# Altium integrated library Altera FLEX 8000.IntLib: 65 symbols (part 2 of 5)
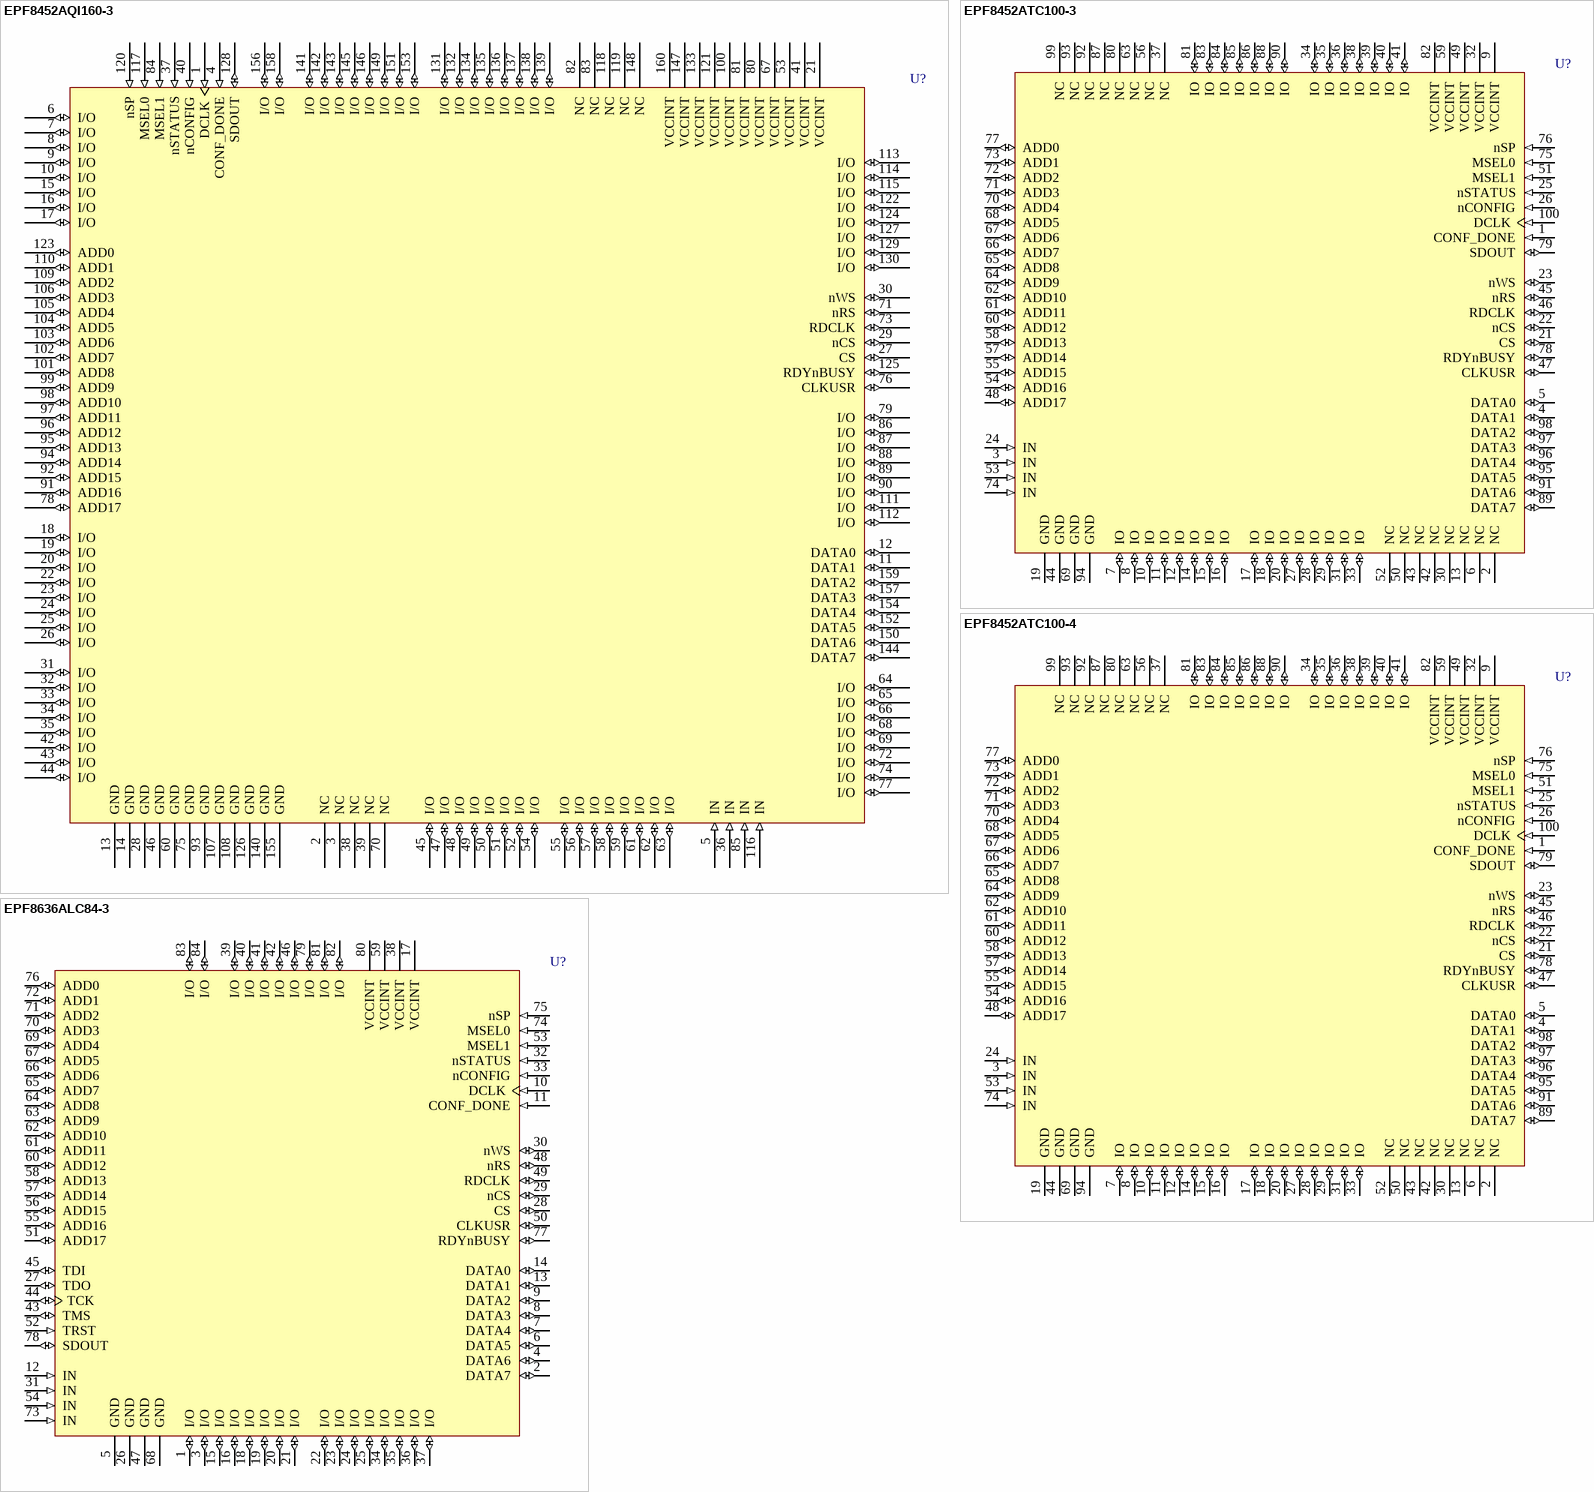
[diagram p40: symbols EPF8452AQI160-3 to EPF8636ALC84-3]

## EPF8636ALC84-3
designator U?
FLEX EPF8636A 5.0V PLD, 68 User IO Pins, 84-Pin PLCC, Speed Grade 3, Commercial Grade; Published: 24-Nov-2000; LatestRevisionDate: 13-Apr-2006; LatestRevisionNote: IPC-7351 Footprint Added.; DatasheetVersion: ver11.1, Jan-2003; PackageVersion: ver14.1, Oct-2005; PackageReference: PLCC84; Publisher: Altium Limited; PackageDescription: 84-Pin Plastic J-Lead Chip Carrier (PLCC84); Code_JEDEC: MS-018-AF; Code_IPC: PLCC-84; ComponentLink1Description: Manufacturer Link; ComponentLink1URL: http://www.altera.com/products/devices/flex8k/f8k-index.html; ComponentLink2Description: Datasheet; ComponentLink2URL: http://www.altera.com/literature/ds/dsf8k.pdf
footprint PLCC84_N (Leaded Chip Carrier, 84-Leads, Body 29.3x29.3mm, Pitch 1.27mm, IPC Medium Density)
footprint PLCC84_L (Leaded Chip Carrier, 84-Leads, Body 29.3x29.3mm, Pitch 1.27mm, IPC High Density)
footprint PLCC84_M (Leaded Chip Carrier, 84-Leads, Body 29.3x29.3mm, Pitch 1.27mm, IPC Low Density)
3D model EPF8636A-PLCC84 (84-Pin Plastic J-Lead Chip Carrier (PLCC84))
pins: 1 I/O (io), 2 DATA7 (io), 3 I/O (io), 4 DATA6 (io), 5 GND (power), 6 DATA5 (io), 7 DATA4 (io), 8 DATA3 (io), 9 DATA2 (io), 10 DCLK (in), 11 CONF_DONE (in), 12 IN (in), 13 DATA1 (io), 14 DATA0 (io), 15 I/O (io), 16 I/O (io), 17 VCCINT (power), 18 I/O (io), 19 I/O (io), 20 I/O (io), 21 I/O (io), 22 I/O (io), 23 I/O (io), 24 I/O (io), 25 I/O (io), 26 GND (power), 27 TDO (io), 28 CS (io), 29 nCS (io), 30 nWS (io), 31 IN (in), 32 nSTATUS (in), 33 nCONFIG (in), 34 I/O (io), 35 I/O (io), 36 I/O (io), 37 I/O (io), 38 VCCINT (power), 39 I/O (io), 40 I/O (io), 41 I/O (io), 42 I/O (io), 43 TMS (io), 44 TCK (io), 45 TDI (io), 46 I/O (io), 47 GND (power), 48 nRS (io), 49 RDCLK (io), 50 CLKUSR (io), 51 ADD17 (io), 52 TRST (in), 53 MSEL1 (in), 54 IN (in), 55 ADD16 (io), 56 ADD15 (io), 57 ADD14 (io), 58 ADD13 (io), 59 VCCINT (power), 60 ADD12 (io), 61 ADD11 (io), 62 ADD10 (io), 63 ADD9 (io), 64 ADD8 (io), 65 ADD7 (io), 66 ADD6 (io), 67 ADD5 (io), 68 GND (power), 69 ADD4 (io), 70 ADD3 (io), 71 ADD2 (io), 72 ADD1 (io), 73 IN (in), 74 MSEL0 (in), 75 nSP (in), 76 ADD0 (io), 77 RDYnBUSY (io), 78 SDOUT (io), 79 I/O (io), 80 VCCINT (power), 81 I/O (io), 82 I/O (io), 83 I/O (io), 84 I/O (io)

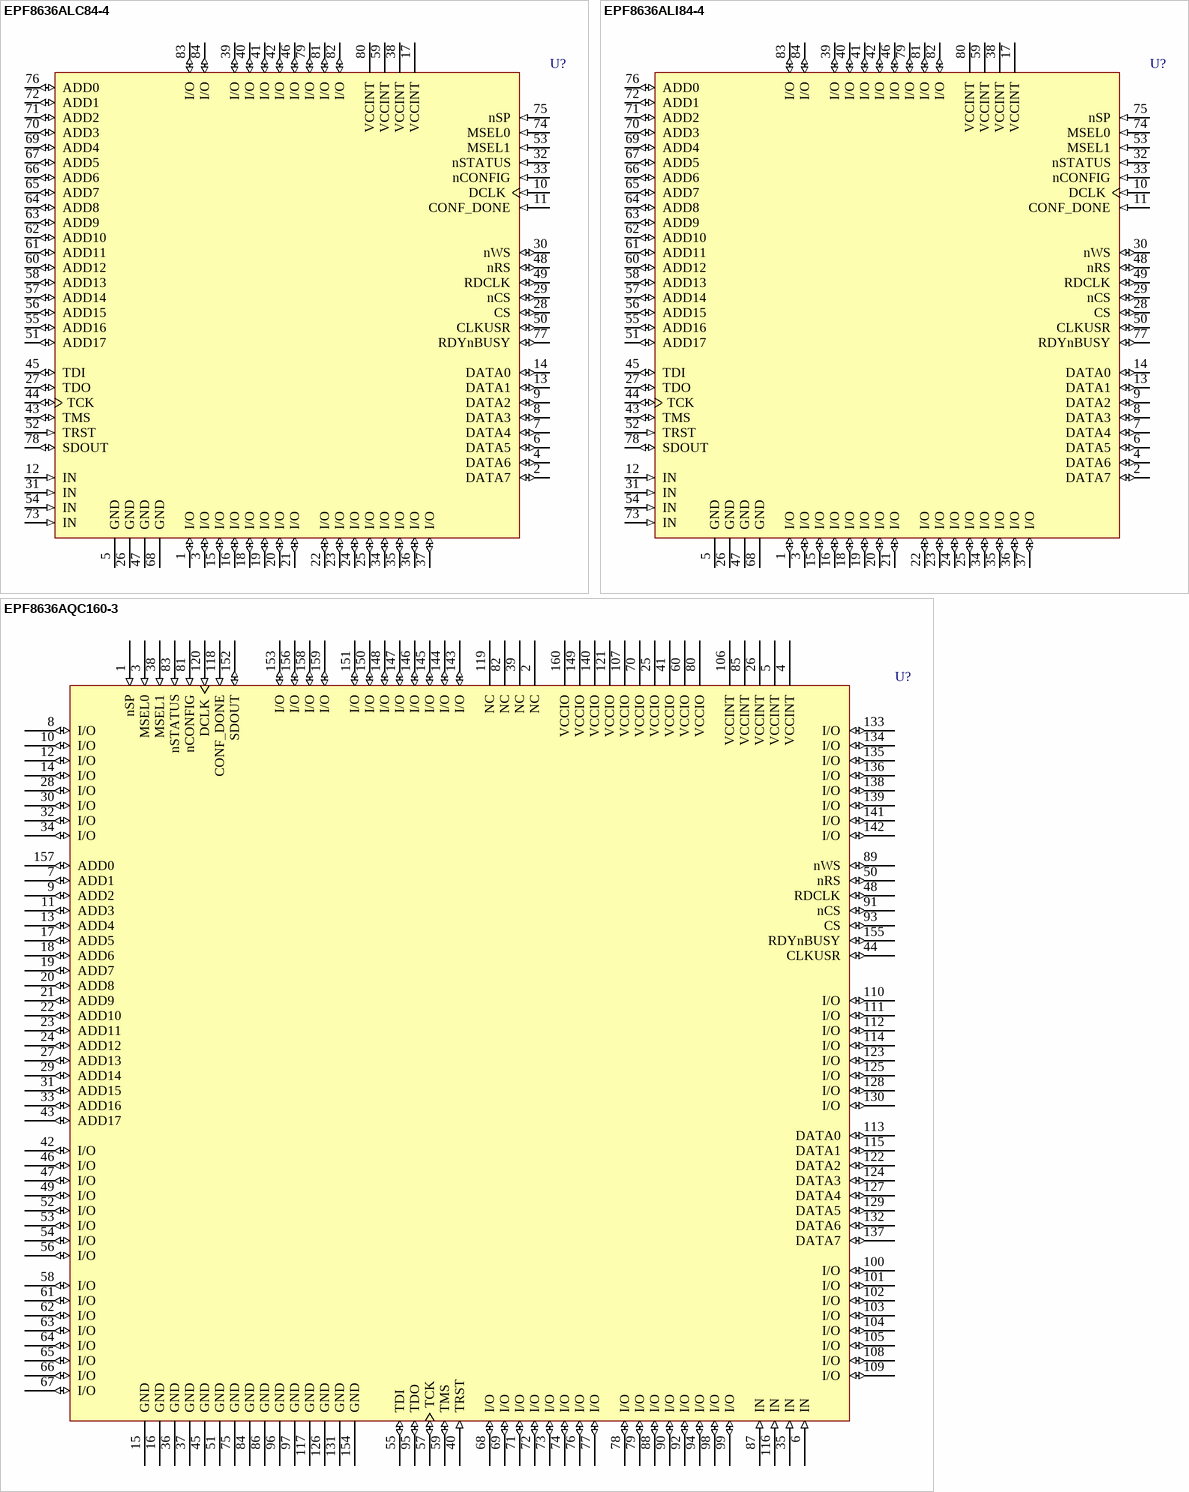
[diagram p7: symbols EPF8636ALC84-4 to EPF8636AQC160-3]

## EPF8636ALC84-4
designator U?
FLEX EPF8636A 5.0V PLD, 68 User IO Pins, 84-Pin PLCC, Speed Grade 4, Commercial Grade; Published: 24-Nov-2000; LatestRevisionDate: 13-Apr-2006; LatestRevisionNote: IPC-7351 Footprint Added.; DatasheetVersion: ver11.1, Jan-2003; PackageVersion: ver14.1, Oct-2005; PackageReference: PLCC84; Publisher: Altium Limited; PackageDescription: 84-Pin Plastic J-Lead Chip Carrier (PLCC84); Code_JEDEC: MS-018-AF; Code_IPC: PLCC-84; ComponentLink1Description: Manufacturer Link; ComponentLink1URL: http://www.altera.com/products/devices/flex8k/f8k-index.html; ComponentLink2Description: Datasheet; ComponentLink2URL: http://www.altera.com/literature/ds/dsf8k.pdf
footprint PLCC84_N (Leaded Chip Carrier, 84-Leads, Body 29.3x29.3mm, Pitch 1.27mm, IPC Medium Density)
footprint PLCC84_L (Leaded Chip Carrier, 84-Leads, Body 29.3x29.3mm, Pitch 1.27mm, IPC High Density)
footprint PLCC84_M (Leaded Chip Carrier, 84-Leads, Body 29.3x29.3mm, Pitch 1.27mm, IPC Low Density)
3D model EPF8636A-PLCC84 (84-Pin Plastic J-Lead Chip Carrier (PLCC84))
pins: 1 I/O (io), 2 DATA7 (io), 3 I/O (io), 4 DATA6 (io), 5 GND (power), 6 DATA5 (io), 7 DATA4 (io), 8 DATA3 (io), 9 DATA2 (io), 10 DCLK (in), 11 CONF_DONE (in), 12 IN (in), 13 DATA1 (io), 14 DATA0 (io), 15 I/O (io), 16 I/O (io), 17 VCCINT (power), 18 I/O (io), 19 I/O (io), 20 I/O (io), 21 I/O (io), 22 I/O (io), 23 I/O (io), 24 I/O (io), 25 I/O (io), 26 GND (power), 27 TDO (io), 28 CS (io), 29 nCS (io), 30 nWS (io), 31 IN (in), 32 nSTATUS (in), 33 nCONFIG (in), 34 I/O (io), 35 I/O (io), 36 I/O (io), 37 I/O (io), 38 VCCINT (power), 39 I/O (io), 40 I/O (io), 41 I/O (io), 42 I/O (io), 43 TMS (io), 44 TCK (io), 45 TDI (io), 46 I/O (io), 47 GND (power), 48 nRS (io), 49 RDCLK (io), 50 CLKUSR (io), 51 ADD17 (io), 52 TRST (in), 53 MSEL1 (in), 54 IN (in), 55 ADD16 (io), 56 ADD15 (io), 57 ADD14 (io), 58 ADD13 (io), 59 VCCINT (power), 60 ADD12 (io), 61 ADD11 (io), 62 ADD10 (io), 63 ADD9 (io), 64 ADD8 (io), 65 ADD7 (io), 66 ADD6 (io), 67 ADD5 (io), 68 GND (power), 69 ADD4 (io), 70 ADD3 (io), 71 ADD2 (io), 72 ADD1 (io), 73 IN (in), 74 MSEL0 (in), 75 nSP (in), 76 ADD0 (io), 77 RDYnBUSY (io), 78 SDOUT (io), 79 I/O (io), 80 VCCINT (power), 81 I/O (io), 82 I/O (io), 83 I/O (io), 84 I/O (io)

## EPF8636ALI84-4
designator U?
FLEX EPF8636A 5.0V PLD, 68 User IO Pins, 84-Pin PLCC, Speed Grade 4, Industrial Grade; Published: 24-Nov-2000; LatestRevisionDate: 13-Apr-2006; LatestRevisionNote: IPC-7351 Footprint Added.; DatasheetVersion: ver11.1, Jan-2003; PackageVersion: ver14.1, Oct-2005; PackageReference: PLCC84; Publisher: Altium Limited; PackageDescription: 84-Pin Plastic J-Lead Chip Carrier (PLCC84); Code_JEDEC: MS-018-AF; Code_IPC: PLCC-84; ComponentLink1Description: Manufacturer Link; ComponentLink1URL: http://www.altera.com/products/devices/flex8k/f8k-index.html; ComponentLink2Description: Datasheet; ComponentLink2URL: http://www.altera.com/literature/ds/dsf8k.pdf
footprint PLCC84_N (Leaded Chip Carrier, 84-Leads, Body 29.3x29.3mm, Pitch 1.27mm, IPC Medium Density)
footprint PLCC84_L (Leaded Chip Carrier, 84-Leads, Body 29.3x29.3mm, Pitch 1.27mm, IPC High Density)
footprint PLCC84_M (Leaded Chip Carrier, 84-Leads, Body 29.3x29.3mm, Pitch 1.27mm, IPC Low Density)
3D model EPF8636A-PLCC84 (84-Pin Plastic J-Lead Chip Carrier (PLCC84))
pins: 1 I/O (io), 2 DATA7 (io), 3 I/O (io), 4 DATA6 (io), 5 GND (power), 6 DATA5 (io), 7 DATA4 (io), 8 DATA3 (io), 9 DATA2 (io), 10 DCLK (in), 11 CONF_DONE (in), 12 IN (in), 13 DATA1 (io), 14 DATA0 (io), 15 I/O (io), 16 I/O (io), 17 VCCINT (power), 18 I/O (io), 19 I/O (io), 20 I/O (io), 21 I/O (io), 22 I/O (io), 23 I/O (io), 24 I/O (io), 25 I/O (io), 26 GND (power), 27 TDO (io), 28 CS (io), 29 nCS (io), 30 nWS (io), 31 IN (in), 32 nSTATUS (in), 33 nCONFIG (in), 34 I/O (io), 35 I/O (io), 36 I/O (io), 37 I/O (io), 38 VCCINT (power), 39 I/O (io), 40 I/O (io), 41 I/O (io), 42 I/O (io), 43 TMS (io), 44 TCK (io), 45 TDI (io), 46 I/O (io), 47 GND (power), 48 nRS (io), 49 RDCLK (io), 50 CLKUSR (io), 51 ADD17 (io), 52 TRST (in), 53 MSEL1 (in), 54 IN (in), 55 ADD16 (io), 56 ADD15 (io), 57 ADD14 (io), 58 ADD13 (io), 59 VCCINT (power), 60 ADD12 (io), 61 ADD11 (io), 62 ADD10 (io), 63 ADD9 (io), 64 ADD8 (io), 65 ADD7 (io), 66 ADD6 (io), 67 ADD5 (io), 68 GND (power), 69 ADD4 (io), 70 ADD3 (io), 71 ADD2 (io), 72 ADD1 (io), 73 IN (in), 74 MSEL0 (in), 75 nSP (in), 76 ADD0 (io), 77 RDYnBUSY (io), 78 SDOUT (io), 79 I/O (io), 80 VCCINT (power), 81 I/O (io), 82 I/O (io), 83 I/O (io), 84 I/O (io)

## EPF8636AQC160-3
designator U?
FLEX EPF8636A 5.0V PLD, 118 User IO Pins, 160-Pin PQFP, Speed Grade 3, Commercial Grade; Published: 24-Nov-2000; LatestRevisionDate: 13-Apr-2006; LatestRevisionNote: IPC-7351 Footprint Added.; DatasheetVersion: ver11.1, Jan-2003; PackageVersion: ver14.1, Oct-2005; PackageReference: PQFP160; Publisher: Altium Limited; PackageDescription: 160-Pin Plastic Quad Flat Pack (PFQP160); Code_JEDEC: MS-022-DD-1; Code_IPC: QFP65P3120X3120-160; ComponentLink1Description: Manufacturer Link; ComponentLink1URL: http://www.altera.com/products/devices/flex8k/f8k-index.html; ComponentLink2Description: Datasheet; ComponentLink2URL: http://www.altera.com/literature/ds/dsf8k.pdf
footprint PQFP160_N (QFP, 160-Leads, Body 28 x 28mm, Pitch 0.65mm, IPC Medium Density)
footprint PQFP160_L (QFP, 160-Leads, Body 28 x 28mm, Pitch 0.65mm, IPC High Density)
footprint PQFP160_M (QFP, 160-Leads, Body 28 x 28mm, Pitch 0.65mm, IPC Low Density)
3D model EPF8636A-PQFP160 (160-Pin Plastic Quad Flat Pack (PFQP160))
pins: 1 nSP (in), 2 NC, 3 MSEL0 (in), 4 VCCINT (power), 5 VCCINT (power), 6 IN (in), 7 ADD1 (io), 8 I/O (io), 9 ADD2 (io), 10 I/O (io), 11 ADD3 (io), 12 I/O (io), 13 ADD4 (io), 14 I/O (io), 15 GND (power), 16 GND (power), 17 ADD5 (io), 18 ADD6 (io), 19 ADD7 (io), 20 ADD8 (io), 21 ADD9 (io), 22 ADD10 (io), 23 ADD11 (io), 24 ADD12 (io), 25 VCCIO (power), 26 VCCINT (power), 27 ADD13 (io), 28 I/O (io), 29 ADD14 (io), 30 I/O (io), 31 ADD15 (io), 32 I/O (io), 33 ADD16 (io), 34 I/O (io), 35 IN (in), 36 GND (power), 37 GND (power), 38 MSEL1 (in), 39 NC, 40 TRST (in), 41 VCCIO (power), 42 I/O (io), 43 ADD17 (io), 44 CLKUSR (io), 45 GND (power), 46 I/O (io), 47 I/O (io), 48 RDCLK (io), 49 I/O (io), 50 nRS (io), 51 GND (power), 52 I/O (io), 53 I/O (io), 54 I/O (io), 55 TDI (io), 56 I/O (io), 57 TCK (io), 58 I/O (io), 59 TMS (io), 60 VCCIO (power), 61 I/O (io), 62 I/O (io), 63 I/O (io), 64 I/O (io), 65 I/O (io), 66 I/O (io), 67 I/O (io), 68 I/O (io), 69 I/O (io), 70 VCCIO (power), 71 I/O (io), 72 I/O (io), 73 I/O (io), 74 I/O (io), 75 GND (power), 76 I/O (io), 77 I/O (io), 78 I/O (io), 79 I/O (io), 80 VCCIO (power), 81 nCONFIG (in), 82 NC, 83 nSTATUS (in), 84 GND (power), 85 VCCINT (power), 86 GND (power), 87 IN (in), 88 I/O (io), 89 nWS (io), 90 I/O (io), 91 nCS (io), 92 I/O (io), 93 CS (io), 94 I/O (io), 95 TDO (io), 96 GND (power), 97 GND (power), 98 I/O (io), 99 I/O (io), 100 I/O (io), 101 I/O (io), 102 I/O (io), 103 I/O (io), 104 I/O (io), 105 I/O (io), 106 VCCINT (power), 107 VCCIO (power), 108 I/O (io), 109 I/O (io), 110 I/O (io), 111 I/O (io), 112 I/O (io), 113 DATA0 (io), 114 I/O (io), 115 DATA1 (io), 116 IN (in), 117 GND (power), 118 CONF_DONE (in), 119 NC, 120 DCLK (in), 121 VCCIO (power), 122 DATA2 (io), 123 I/O (io), 124 DATA3 (io), 125 I/O (io), 126 GND (power), 127 DATA4 (io), 128 I/O (io), 129 DATA5 (io), 130 I/O (io), 131 GND (power), 132 DATA6 (io), 133 I/O (io), 134 I/O (io), 135 I/O (io), 136 I/O (io), 137 DATA7 (io), 138 I/O (io), 139 I/O (io), 140 VCCIO (power), 141 I/O (io), 142 I/O (io), 143 I/O (io), 144 I/O (io), 145 I/O (io), 146 I/O (io), 147 I/O (io), 148 I/O (io), 149 VCCIO (power), 150 I/O (io), 151 I/O (io), 152 SDOUT (io), 153 I/O (io), 154 GND (power), 155 RDYnBUSY (io), 156 I/O (io), 157 ADD0 (io), 158 I/O (io), 159 I/O (io), 160 VCCIO (power)

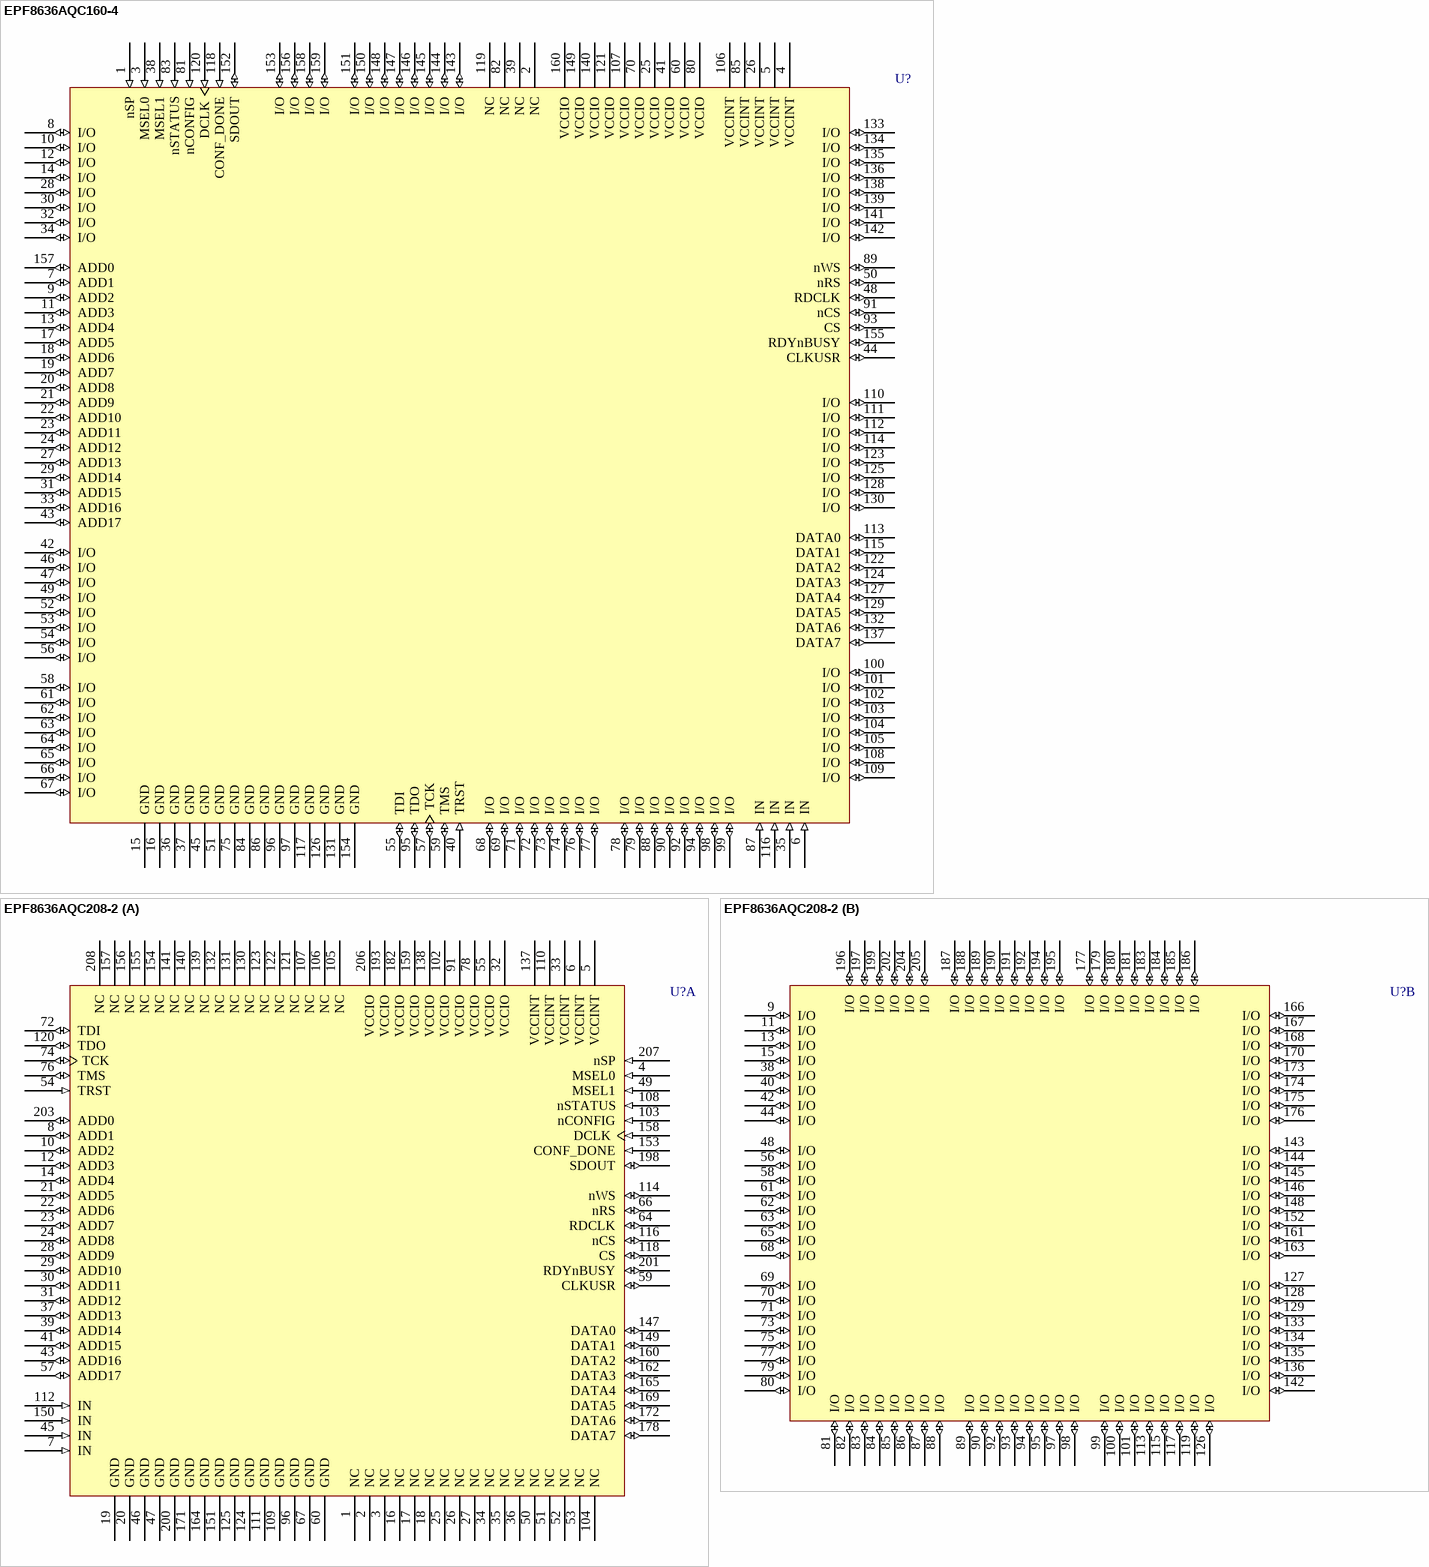
[diagram p8: symbols EPF8636AQC160-4 to EPF8636AQC208-2]

## EPF8636AQC160-4
designator U?
FLEX EPF8636A 5.0V PLD, 118 User IO Pins, 160-Pin PQFP, Speed Grade 4, Commercial Grade; Published: 24-Nov-2000; LatestRevisionDate: 13-Apr-2006; LatestRevisionNote: IPC-7351 Footprint Added.; DatasheetVersion: ver11.1, Jan-2003; PackageVersion: ver14.1, Oct-2005; PackageReference: PQFP160; Publisher: Altium Limited; PackageDescription: 160-Pin Plastic Quad Flat Pack (PFQP160); Code_JEDEC: MS-022-DD-1; Code_IPC: QFP65P3120X3120-160; ComponentLink1Description: Manufacturer Link; ComponentLink1URL: http://www.altera.com/products/devices/flex8k/f8k-index.html; ComponentLink2Description: Datasheet; ComponentLink2URL: http://www.altera.com/literature/ds/dsf8k.pdf
footprint PQFP160_N (QFP, 160-Leads, Body 28 x 28mm, Pitch 0.65mm, IPC Medium Density)
footprint PQFP160_L (QFP, 160-Leads, Body 28 x 28mm, Pitch 0.65mm, IPC High Density)
footprint PQFP160_M (QFP, 160-Leads, Body 28 x 28mm, Pitch 0.65mm, IPC Low Density)
3D model EPF8636A-PQFP160 (160-Pin Plastic Quad Flat Pack (PFQP160))
pins: 1 nSP (in), 2 NC, 3 MSEL0 (in), 4 VCCINT (power), 5 VCCINT (power), 6 IN (in), 7 ADD1 (io), 8 I/O (io), 9 ADD2 (io), 10 I/O (io), 11 ADD3 (io), 12 I/O (io), 13 ADD4 (io), 14 I/O (io), 15 GND (power), 16 GND (power), 17 ADD5 (io), 18 ADD6 (io), 19 ADD7 (io), 20 ADD8 (io), 21 ADD9 (io), 22 ADD10 (io), 23 ADD11 (io), 24 ADD12 (io), 25 VCCIO (power), 26 VCCINT (power), 27 ADD13 (io), 28 I/O (io), 29 ADD14 (io), 30 I/O (io), 31 ADD15 (io), 32 I/O (io), 33 ADD16 (io), 34 I/O (io), 35 IN (in), 36 GND (power), 37 GND (power), 38 MSEL1 (in), 39 NC, 40 TRST (in), 41 VCCIO (power), 42 I/O (io), 43 ADD17 (io), 44 CLKUSR (io), 45 GND (power), 46 I/O (io), 47 I/O (io), 48 RDCLK (io), 49 I/O (io), 50 nRS (io), 51 GND (power), 52 I/O (io), 53 I/O (io), 54 I/O (io), 55 TDI (io), 56 I/O (io), 57 TCK (io), 58 I/O (io), 59 TMS (io), 60 VCCIO (power), 61 I/O (io), 62 I/O (io), 63 I/O (io), 64 I/O (io), 65 I/O (io), 66 I/O (io), 67 I/O (io), 68 I/O (io), 69 I/O (io), 70 VCCIO (power), 71 I/O (io), 72 I/O (io), 73 I/O (io), 74 I/O (io), 75 GND (power), 76 I/O (io), 77 I/O (io), 78 I/O (io), 79 I/O (io), 80 VCCIO (power), 81 nCONFIG (in), 82 NC, 83 nSTATUS (in), 84 GND (power), 85 VCCINT (power), 86 GND (power), 87 IN (in), 88 I/O (io), 89 nWS (io), 90 I/O (io), 91 nCS (io), 92 I/O (io), 93 CS (io), 94 I/O (io), 95 TDO (io), 96 GND (power), 97 GND (power), 98 I/O (io), 99 I/O (io), 100 I/O (io), 101 I/O (io), 102 I/O (io), 103 I/O (io), 104 I/O (io), 105 I/O (io), 106 VCCINT (power), 107 VCCIO (power), 108 I/O (io), 109 I/O (io), 110 I/O (io), 111 I/O (io), 112 I/O (io), 113 DATA0 (io), 114 I/O (io), 115 DATA1 (io), 116 IN (in), 117 GND (power), 118 CONF_DONE (in), 119 NC, 120 DCLK (in), 121 VCCIO (power), 122 DATA2 (io), 123 I/O (io), 124 DATA3 (io), 125 I/O (io), 126 GND (power), 127 DATA4 (io), 128 I/O (io), 129 DATA5 (io), 130 I/O (io), 131 GND (power), 132 DATA6 (io), 133 I/O (io), 134 I/O (io), 135 I/O (io), 136 I/O (io), 137 DATA7 (io), 138 I/O (io), 139 I/O (io), 140 VCCIO (power), 141 I/O (io), 142 I/O (io), 143 I/O (io), 144 I/O (io), 145 I/O (io), 146 I/O (io), 147 I/O (io), 148 I/O (io), 149 VCCIO (power), 150 I/O (io), 151 I/O (io), 152 SDOUT (io), 153 I/O (io), 154 GND (power), 155 RDYnBUSY (io), 156 I/O (io), 157 ADD0 (io), 158 I/O (io), 159 I/O (io), 160 VCCIO (power)

## EPF8636AQC208-2
designator U?
FLEX EPF8636A 5.0V PLD, 136 User IO Pins, 208-Pin PQFP, Speed Grade 2, Commercial Grade; Published: 24-Nov-2000; LatestRevisionDate: 13-Apr-2006; LatestRevisionNote: IPC-7351 Footprint Added.; DatasheetVersion: ver11.1, Jan-2003; PackageVersion: ver14.1, Oct-2005; PackageReference: PQFP208; Publisher: Altium Limited; PackageDescription: 208-Pin Plastic Quad Flat Pack (PQFP208); Code_JEDEC: MS-029-FA-1; ComponentLink1Description: Manufacturer Link; ComponentLink1URL: http://www.altera.com/products/devices/flex8k/f8k-index.html; ComponentLink2Description: Datasheet; ComponentLink2URL: http://www.altera.com/literature/ds/dsf8k.pdf
footprint PQFP208_N (Shrink QFP, 208-Leads, Body 28x28mm, Pitch 0.5mm, IPC Medium Density)
footprint PQFP208_L (Shrink QFP, 208-Leads, Body 28x28mm, Pitch 0.5mm, IPC High Density)
footprint PQFP208_M (Shrink QFP, 208-Leads, Body 28x28mm, Pitch 0.5mm, IPC Low Density)
3D model EPF8636A-PQFP208 (208-Pin Plastic Quad Flat Pack (PQFP208))
part A pins: 1 NC, 2 NC, 3 NC, 4 MSEL0 (in), 5 VCCINT (power), 6 VCCINT (power), 7 IN (in), 8 ADD1 (io), 10 ADD2 (io), 12 ADD3 (io), 14 ADD4 (io), 16 NC, 17 NC, 18 NC, 19 GND (power), 20 GND (power), 21 ADD5 (io), 22 ADD6 (io), 23 ADD7 (io), 24 ADD8 (io), 25 NC, 26 NC, 27 NC, 28 ADD9 (io), 29 ADD10 (io), 30 ADD11 (io), 31 ADD12 (io), 32 VCCIO (power), 33 VCCINT (power), 34 NC, 35 NC, 36 NC, 37 ADD13 (io), 39 ADD14 (io), 41 ADD15 (io), 43 ADD16 (io), 45 IN (in), 46 GND (power), 47 GND (power), 49 MSEL1 (in), 50 NC, 51 NC, 52 NC, 53 NC, 54 TRST (in), 55 VCCIO (power), 57 ADD17 (io), 59 CLKUSR (io), 60 GND (power), 64 RDCLK (io), 66 nRS (io), 67 GND (power), 72 TDI (io), 74 TCK (io), 76 TMS (io), 78 VCCIO (power), 91 VCCIO (power), 96 GND (power), 102 VCCIO (power), 103 nCONFIG (in), 104 NC, 105 NC, 106 NC, 107 NC, 108 nSTATUS (in), 109 GND (power), 110 VCCINT (power), 111 GND (power), 112 IN (in), 114 nWS (io), 116 nCS (io), 118 CS (io), 120 TDO (io), 121 NC, 122 NC, 123 NC, 124 GND (power), 125 GND (power), 130 NC, 131 NC, 132 NC, 137 VCCINT (power), 138 VCCIO (power), 139 NC, 140 NC, 141 NC, 147 DATA0 (io), 149 DATA1 (io), 150 IN (in), 151 GND (power), 153 CONF_DONE (in), 154 NC, 155 NC, 156 NC, 157 NC, 158 DCLK (in), 159 VCCIO (power), 160 DATA2 (io), 162 DATA3 (io), 164 GND (power), 165 DATA4 (io), 169 DATA5 (io), 171 GND (power), 172 DATA6 (io), 178 DATA7 (io), 182 VCCIO (power), 193 VCCIO (power), 198 SDOUT (io), 200 GND (power), 201 RDYnBUSY (io), 203 ADD0 (io), 206 VCCIO (power), 207 nSP (in), 208 NC
part B pins: 9 I/O (io), 11 I/O (io), 13 I/O (io), 15 I/O (io), 38 I/O (io), 40 I/O (io), 42 I/O (io), 44 I/O (io), 48 I/O (io), 56 I/O (io), 58 I/O (io), 61 I/O (io), 62 I/O (io), 63 I/O (io), 65 I/O (io), 68 I/O (io), 69 I/O (io), 70 I/O (io), 71 I/O (io), 73 I/O (io), 75 I/O (io), 77 I/O (io), 79 I/O (io), 80 I/O (io), 81 I/O (io), 82 I/O (io), 83 I/O (io), 84 I/O (io), 85 I/O (io), 86 I/O (io), 87 I/O (io), 88 I/O (io), 89 I/O (io), 90 I/O (io), 92 I/O (io), 93 I/O (io), 94 I/O (io), 95 I/O (io), 97 I/O (io), 98 I/O (io), 99 I/O (io), 100 I/O (io), 101 I/O (io), 113 I/O (io), 115 I/O (io), 117 I/O (io), 119 I/O (io), 126 I/O (io), 127 I/O (io), 128 I/O (io), 129 I/O (io), 133 I/O (io), 134 I/O (io), 135 I/O (io), 136 I/O (io), 142 I/O (io), 143 I/O (io), 144 I/O (io), 145 I/O (io), 146 I/O (io), 148 I/O (io), 152 I/O (io), 161 I/O (io), 163 I/O (io), 166 I/O (io), 167 I/O (io), 168 I/O (io), 170 I/O (io), 173 I/O (io), 174 I/O (io), 175 I/O (io), 176 I/O (io), 177 I/O (io), 179 I/O (io), 180 I/O (io), 181 I/O (io), 183 I/O (io), 184 I/O (io), 185 I/O (io), 186 I/O (io), 187 I/O (io), 188 I/O (io), 189 I/O (io), 190 I/O (io), 191 I/O (io), 192 I/O (io), 194 I/O (io), 195 I/O (io), 196 I/O (io), 197 I/O (io), 199 I/O (io), 202 I/O (io), 204 I/O (io), 205 I/O (io)

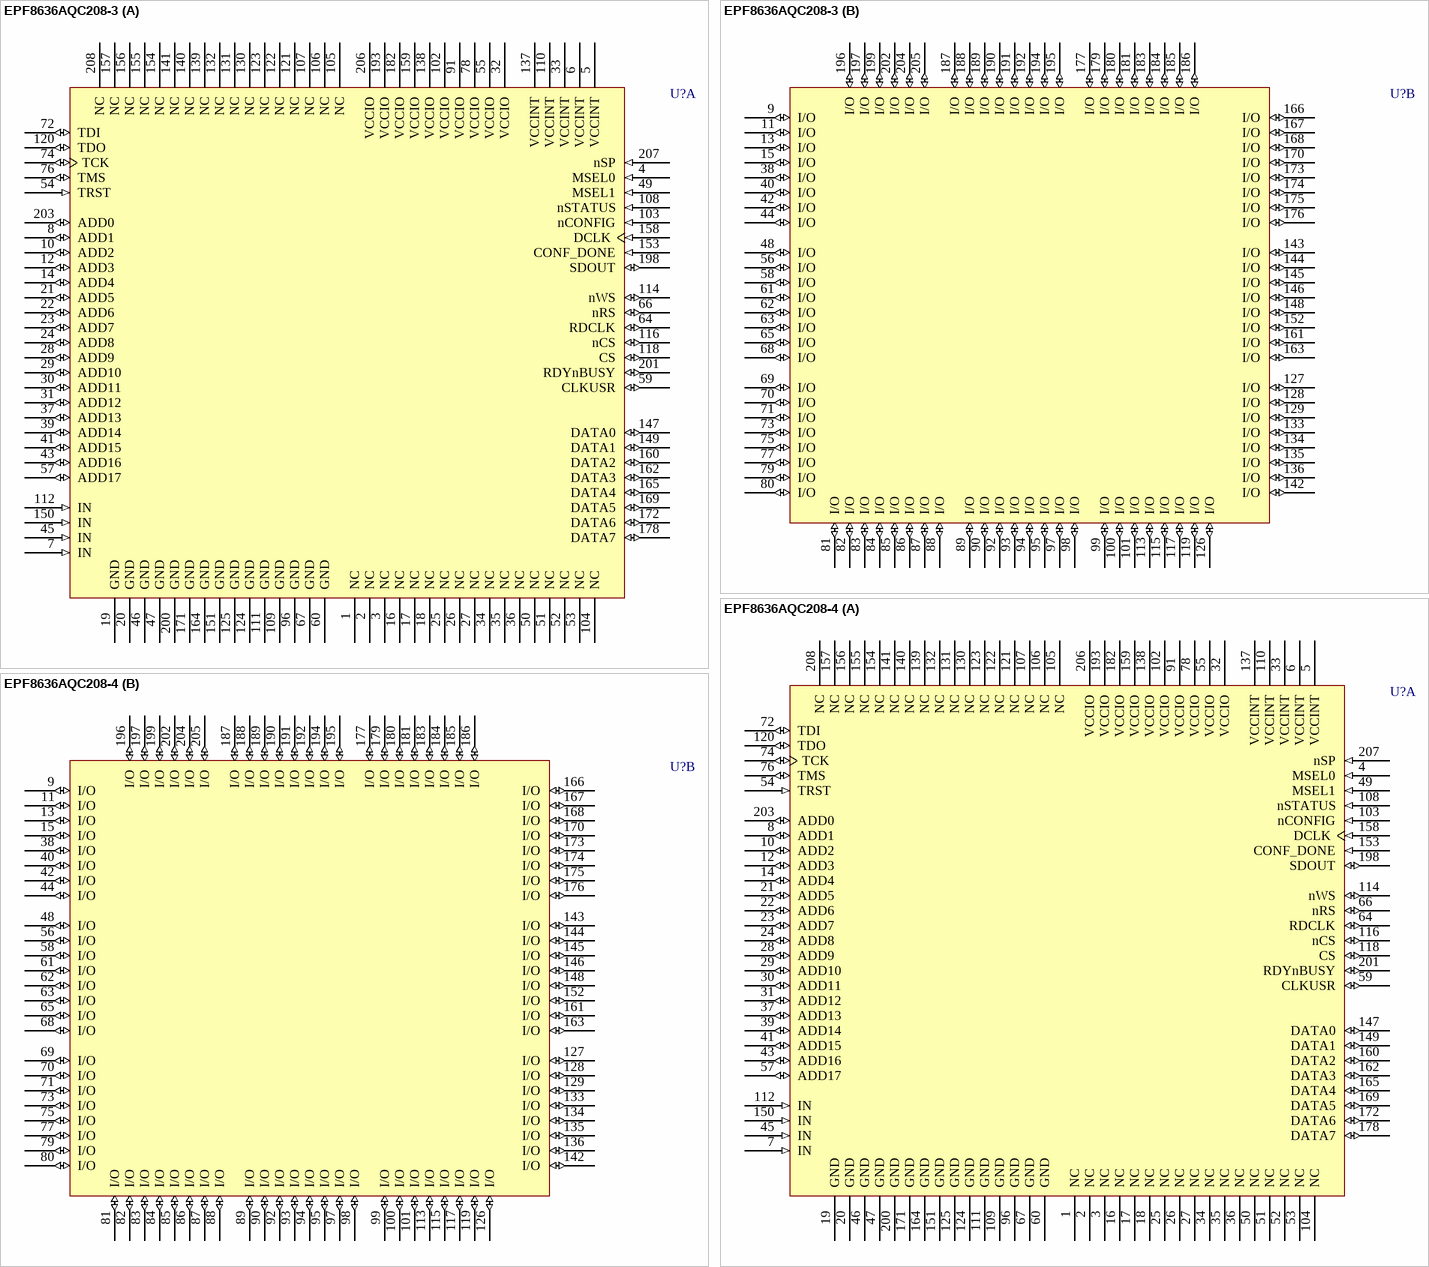
[diagram p9: symbols EPF8636AQC208-3 to EPF8636AQC208-4]

## EPF8636AQC208-3
designator U?
FLEX EPF8636A 5.0V PLD, 136 User IO Pins, 208-Pin PQFP, Speed Grade 3, Commercial Grade; Published: 24-Nov-2000; LatestRevisionDate: 13-Apr-2006; LatestRevisionNote: IPC-7351 Footprint Added.; DatasheetVersion: ver11.1, Jan-2003; PackageVersion: ver14.1, Oct-2005; PackageReference: PQFP208; Publisher: Altium Limited; PackageDescription: 208-Pin Plastic Quad Flat Pack (PQFP208); Code_JEDEC: MS-029-FA-1; ComponentLink1Description: Manufacturer Link; ComponentLink1URL: http://www.altera.com/products/devices/flex8k/f8k-index.html; ComponentLink2Description: Datasheet; ComponentLink2URL: http://www.altera.com/literature/ds/dsf8k.pdf
footprint PQFP208_N (Shrink QFP, 208-Leads, Body 28x28mm, Pitch 0.5mm, IPC Medium Density)
footprint PQFP208_L (Shrink QFP, 208-Leads, Body 28x28mm, Pitch 0.5mm, IPC High Density)
footprint PQFP208_M (Shrink QFP, 208-Leads, Body 28x28mm, Pitch 0.5mm, IPC Low Density)
3D model EPF8636A-PQFP208 (208-Pin Plastic Quad Flat Pack (PQFP208))
part A pins: 1 NC, 2 NC, 3 NC, 4 MSEL0 (in), 5 VCCINT (power), 6 VCCINT (power), 7 IN (in), 8 ADD1 (io), 10 ADD2 (io), 12 ADD3 (io), 14 ADD4 (io), 16 NC, 17 NC, 18 NC, 19 GND (power), 20 GND (power), 21 ADD5 (io), 22 ADD6 (io), 23 ADD7 (io), 24 ADD8 (io), 25 NC, 26 NC, 27 NC, 28 ADD9 (io), 29 ADD10 (io), 30 ADD11 (io), 31 ADD12 (io), 32 VCCIO (power), 33 VCCINT (power), 34 NC, 35 NC, 36 NC, 37 ADD13 (io), 39 ADD14 (io), 41 ADD15 (io), 43 ADD16 (io), 45 IN (in), 46 GND (power), 47 GND (power), 49 MSEL1 (in), 50 NC, 51 NC, 52 NC, 53 NC, 54 TRST (in), 55 VCCIO (power), 57 ADD17 (io), 59 CLKUSR (io), 60 GND (power), 64 RDCLK (io), 66 nRS (io), 67 GND (power), 72 TDI (io), 74 TCK (io), 76 TMS (io), 78 VCCIO (power), 91 VCCIO (power), 96 GND (power), 102 VCCIO (power), 103 nCONFIG (in), 104 NC, 105 NC, 106 NC, 107 NC, 108 nSTATUS (in), 109 GND (power), 110 VCCINT (power), 111 GND (power), 112 IN (in), 114 nWS (io), 116 nCS (io), 118 CS (io), 120 TDO (io), 121 NC, 122 NC, 123 NC, 124 GND (power), 125 GND (power), 130 NC, 131 NC, 132 NC, 137 VCCINT (power), 138 VCCIO (power), 139 NC, 140 NC, 141 NC, 147 DATA0 (io), 149 DATA1 (io), 150 IN (in), 151 GND (power), 153 CONF_DONE (in), 154 NC, 155 NC, 156 NC, 157 NC, 158 DCLK (in), 159 VCCIO (power), 160 DATA2 (io), 162 DATA3 (io), 164 GND (power), 165 DATA4 (io), 169 DATA5 (io), 171 GND (power), 172 DATA6 (io), 178 DATA7 (io), 182 VCCIO (power), 193 VCCIO (power), 198 SDOUT (io), 200 GND (power), 201 RDYnBUSY (io), 203 ADD0 (io), 206 VCCIO (power), 207 nSP (in), 208 NC
part B pins: 9 I/O (io), 11 I/O (io), 13 I/O (io), 15 I/O (io), 38 I/O (io), 40 I/O (io), 42 I/O (io), 44 I/O (io), 48 I/O (io), 56 I/O (io), 58 I/O (io), 61 I/O (io), 62 I/O (io), 63 I/O (io), 65 I/O (io), 68 I/O (io), 69 I/O (io), 70 I/O (io), 71 I/O (io), 73 I/O (io), 75 I/O (io), 77 I/O (io), 79 I/O (io), 80 I/O (io), 81 I/O (io), 82 I/O (io), 83 I/O (io), 84 I/O (io), 85 I/O (io), 86 I/O (io), 87 I/O (io), 88 I/O (io), 89 I/O (io), 90 I/O (io), 92 I/O (io), 93 I/O (io), 94 I/O (io), 95 I/O (io), 97 I/O (io), 98 I/O (io), 99 I/O (io), 100 I/O (io), 101 I/O (io), 113 I/O (io), 115 I/O (io), 117 I/O (io), 119 I/O (io), 126 I/O (io), 127 I/O (io), 128 I/O (io), 129 I/O (io), 133 I/O (io), 134 I/O (io), 135 I/O (io), 136 I/O (io), 142 I/O (io), 143 I/O (io), 144 I/O (io), 145 I/O (io), 146 I/O (io), 148 I/O (io), 152 I/O (io), 161 I/O (io), 163 I/O (io), 166 I/O (io), 167 I/O (io), 168 I/O (io), 170 I/O (io), 173 I/O (io), 174 I/O (io), 175 I/O (io), 176 I/O (io), 177 I/O (io), 179 I/O (io), 180 I/O (io), 181 I/O (io), 183 I/O (io), 184 I/O (io), 185 I/O (io), 186 I/O (io), 187 I/O (io), 188 I/O (io), 189 I/O (io), 190 I/O (io), 191 I/O (io), 192 I/O (io), 194 I/O (io), 195 I/O (io), 196 I/O (io), 197 I/O (io), 199 I/O (io), 202 I/O (io), 204 I/O (io), 205 I/O (io)

## EPF8636AQC208-4
designator U?
FLEX EPF8636A 5.0V PLD, 136 User IO Pins, 208-Pin PQFP, Speed Grade 4, Commercial Grade; Published: 24-Nov-2000; LatestRevisionDate: 13-Apr-2006; LatestRevisionNote: IPC-7351 Footprint Added.; DatasheetVersion: ver11.1, Jan-2003; PackageVersion: ver14.1, Oct-2005; PackageReference: PQFP208; Publisher: Altium Limited; PackageDescription: 208-Pin Plastic Quad Flat Pack (PQFP208); Code_JEDEC: MS-029-FA-1; ComponentLink1Description: Manufacturer Link; ComponentLink1URL: http://www.altera.com/products/devices/flex8k/f8k-index.html; ComponentLink2Description: Datasheet; ComponentLink2URL: http://www.altera.com/literature/ds/dsf8k.pdf
footprint PQFP208_N (Shrink QFP, 208-Leads, Body 28x28mm, Pitch 0.5mm, IPC Medium Density)
footprint PQFP208_L (Shrink QFP, 208-Leads, Body 28x28mm, Pitch 0.5mm, IPC High Density)
footprint PQFP208_M (Shrink QFP, 208-Leads, Body 28x28mm, Pitch 0.5mm, IPC Low Density)
3D model EPF8636A-PQFP208 (208-Pin Plastic Quad Flat Pack (PQFP208))
part A pins: 1 NC, 2 NC, 3 NC, 4 MSEL0 (in), 5 VCCINT (power), 6 VCCINT (power), 7 IN (in), 8 ADD1 (io), 10 ADD2 (io), 12 ADD3 (io), 14 ADD4 (io), 16 NC, 17 NC, 18 NC, 19 GND (power), 20 GND (power), 21 ADD5 (io), 22 ADD6 (io), 23 ADD7 (io), 24 ADD8 (io), 25 NC, 26 NC, 27 NC, 28 ADD9 (io), 29 ADD10 (io), 30 ADD11 (io), 31 ADD12 (io), 32 VCCIO (power), 33 VCCINT (power), 34 NC, 35 NC, 36 NC, 37 ADD13 (io), 39 ADD14 (io), 41 ADD15 (io), 43 ADD16 (io), 45 IN (in), 46 GND (power), 47 GND (power), 49 MSEL1 (in), 50 NC, 51 NC, 52 NC, 53 NC, 54 TRST (in), 55 VCCIO (power), 57 ADD17 (io), 59 CLKUSR (io), 60 GND (power), 64 RDCLK (io), 66 nRS (io), 67 GND (power), 72 TDI (io), 74 TCK (io), 76 TMS (io), 78 VCCIO (power), 91 VCCIO (power), 96 GND (power), 102 VCCIO (power), 103 nCONFIG (in), 104 NC, 105 NC, 106 NC, 107 NC, 108 nSTATUS (in), 109 GND (power), 110 VCCINT (power), 111 GND (power), 112 IN (in), 114 nWS (io), 116 nCS (io), 118 CS (io), 120 TDO (io), 121 NC, 122 NC, 123 NC, 124 GND (power), 125 GND (power), 130 NC, 131 NC, 132 NC, 137 VCCINT (power), 138 VCCIO (power), 139 NC, 140 NC, 141 NC, 147 DATA0 (io), 149 DATA1 (io), 150 IN (in), 151 GND (power), 153 CONF_DONE (in), 154 NC, 155 NC, 156 NC, 157 NC, 158 DCLK (in), 159 VCCIO (power), 160 DATA2 (io), 162 DATA3 (io), 164 GND (power), 165 DATA4 (io), 169 DATA5 (io), 171 GND (power), 172 DATA6 (io), 178 DATA7 (io), 182 VCCIO (power), 193 VCCIO (power), 198 SDOUT (io), 200 GND (power), 201 RDYnBUSY (io), 203 ADD0 (io), 206 VCCIO (power), 207 nSP (in), 208 NC
part B pins: 9 I/O (io), 11 I/O (io), 13 I/O (io), 15 I/O (io), 38 I/O (io), 40 I/O (io), 42 I/O (io), 44 I/O (io), 48 I/O (io), 56 I/O (io), 58 I/O (io), 61 I/O (io), 62 I/O (io), 63 I/O (io), 65 I/O (io), 68 I/O (io), 69 I/O (io), 70 I/O (io), 71 I/O (io), 73 I/O (io), 75 I/O (io), 77 I/O (io), 79 I/O (io), 80 I/O (io), 81 I/O (io), 82 I/O (io), 83 I/O (io), 84 I/O (io), 85 I/O (io), 86 I/O (io), 87 I/O (io), 88 I/O (io), 89 I/O (io), 90 I/O (io), 92 I/O (io), 93 I/O (io), 94 I/O (io), 95 I/O (io), 97 I/O (io), 98 I/O (io), 99 I/O (io), 100 I/O (io), 101 I/O (io), 113 I/O (io), 115 I/O (io), 117 I/O (io), 119 I/O (io), 126 I/O (io), 127 I/O (io), 128 I/O (io), 129 I/O (io), 133 I/O (io), 134 I/O (io), 135 I/O (io), 136 I/O (io), 142 I/O (io), 143 I/O (io), 144 I/O (io), 145 I/O (io), 146 I/O (io), 148 I/O (io), 152 I/O (io), 161 I/O (io), 163 I/O (io), 166 I/O (io), 167 I/O (io), 168 I/O (io), 170 I/O (io), 173 I/O (io), 174 I/O (io), 175 I/O (io), 176 I/O (io), 177 I/O (io), 179 I/O (io), 180 I/O (io), 181 I/O (io), 183 I/O (io), 184 I/O (io), 185 I/O (io), 186 I/O (io), 187 I/O (io), 188 I/O (io), 189 I/O (io), 190 I/O (io), 191 I/O (io), 192 I/O (io), 194 I/O (io), 195 I/O (io), 196 I/O (io), 197 I/O (io), 199 I/O (io), 202 I/O (io), 204 I/O (io), 205 I/O (io)

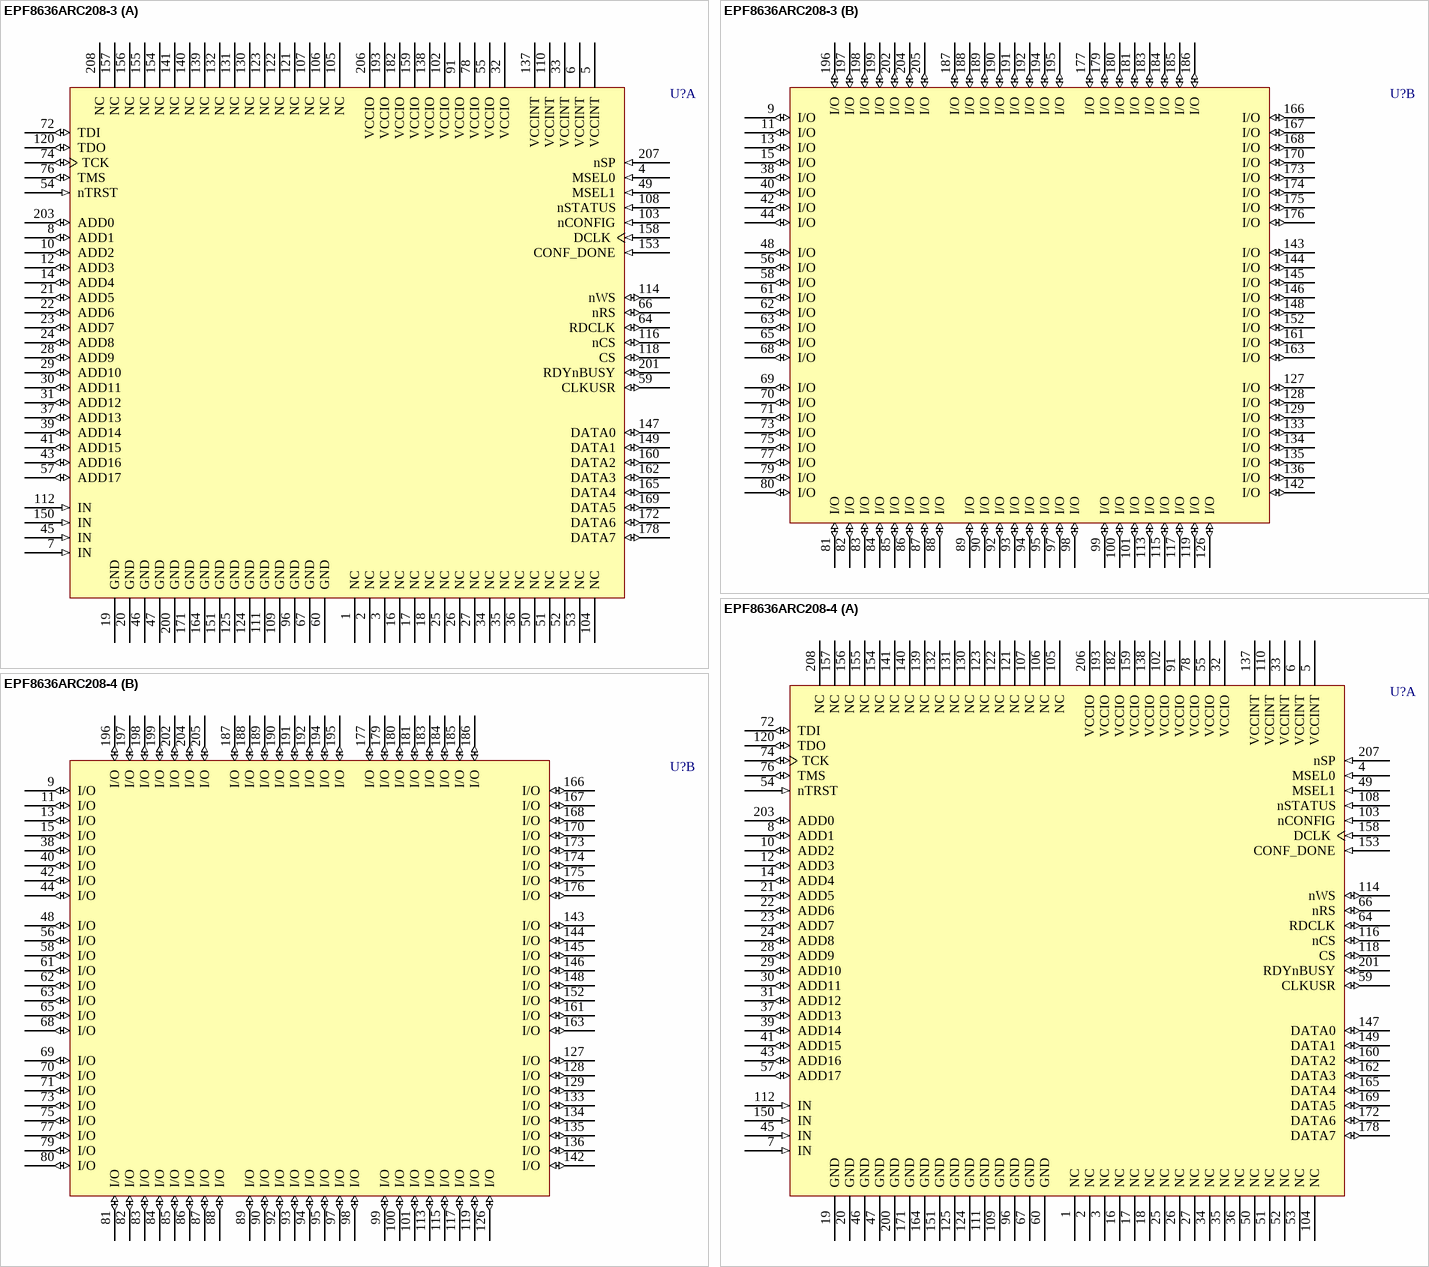
[diagram p10: symbols EPF8636ARC208-3 to EPF8636ARC208-4]

## EPF8636ARC208-3
designator U?
FLEX EPF8636A 5.0V PLD, 136 User IO Pins, 208-Pin RQFP, Speed Grade 3, Commercial Grade; ComponentAvailability: Obsolete; Published: 24-Nov-2000; LatestRevisionDate: 13-Apr-2006; LatestRevisionNote: IPC-7351 Footprint Added.; DatasheetVersion: Jun-1999; PackageVersion: ver14.1, Oct-2005; PackageReference: RQFP208; Publisher: Altium Limited; PackageDescription: 208-Pin Power Quad Flat Pack (RQFP208); Code_JEDEC: MS-029-FA-1; ComponentLink1Description: Manufacturer Link; ComponentLink1URL: http://www.altera.com/products/devices/flex8k/f8k-index.html; ComponentLink2Description: Discontinuation Notice; ComponentLink2URL: http://www.altera.com/literature/pcn/pdn0314.pdf
footprint RQFP208_N (Shrink QFP, 208-Leads, Body 28x28mm, Pitch 0.5mm, IPC Medium Density)
footprint RQFP208_L (Shrink QFP, 208-Leads, Body 28x28mm, Pitch 0.5mm, IPC High Density)
footprint RQFP208_M (Shrink QFP, 208-Leads, Body 28x28mm, Pitch 0.5mm, IPC Low Density)
3D model EPF8636A-RQFP208 (208-Pin Power Quad Flat Pack (RQFP208))
part A pins: 1 NC, 2 NC, 3 NC, 4 MSEL0 (in), 5 VCCINT (power), 6 VCCINT (power), 7 IN (in), 8 ADD1 (io), 10 ADD2 (io), 12 ADD3 (io), 14 ADD4 (io), 16 NC, 17 NC, 18 NC, 19 GND, 20 GND (power), 21 ADD5 (io), 22 ADD6 (io), 23 ADD7 (io), 24 ADD8 (io), 25 NC, 26 NC, 27 NC, 28 ADD9 (io), 29 ADD10 (io), 30 ADD11 (io), 31 ADD12 (io), 32 VCCIO (power), 33 VCCINT (power), 34 NC, 35 NC, 36 NC, 37 ADD13 (io), 39 ADD14 (io), 41 ADD15 (io), 43 ADD16 (io), 45 IN (in), 46 GND (power), 47 GND (power), 49 MSEL1 (in), 50 NC, 51 NC, 52 NC, 53 NC, 54 nTRST (in), 55 VCCIO (power), 57 ADD17 (io), 59 CLKUSR (io), 60 GND (power), 64 RDCLK (io), 66 nRS (io), 67 GND (power), 72 TDI (io), 74 TCK (io), 76 TMS (io), 78 VCCIO (power), 91 VCCIO (power), 96 GND (power), 102 VCCIO (power), 103 nCONFIG (in), 104 NC, 105 NC, 106 NC, 107 NC, 108 nSTATUS (in), 109 GND (power), 110 VCCINT (power), 111 GND (power), 112 IN (in), 114 nWS (io), 116 nCS (io), 118 CS (io), 120 TDO (io), 121 NC, 122 NC, 123 NC, 124 GND (power), 125 GND (power), 130 NC, 131 NC, 132 NC, 137 VCCINT (power), 138 VCCIO (power), 139 NC, 140 NC, 141 NC, 147 DATA0 (io), 149 DATA1 (io), 150 IN (in), 151 GND (power), 153 CONF_DONE (in), 154 NC, 155 NC, 156 NC, 157 NC, 158 DCLK (in), 159 VCCIO (power), 160 DATA2 (io), 162 DATA3 (io), 164 GND (power), 165 DATA4 (io), 169 DATA5 (io), 171 GND (power), 172 DATA6 (io), 178 DATA7 (io), 182 VCCIO (power), 193 VCCIO (power), 200 GND (power), 201 RDYnBUSY (io), 203 ADD0 (io), 206 VCCIO (power), 207 nSP (in), 208 NC
part B pins: 9 I/O (io), 11 I/O (io), 13 I/O (io), 15 I/O (io), 38 I/O (io), 40 I/O (io), 42 I/O (io), 44 I/O (io), 48 I/O (io), 56 I/O (io), 58 I/O (io), 61 I/O (io), 62 I/O (io), 63 I/O (io), 65 I/O (io), 68 I/O (io), 69 I/O (io), 70 I/O (io), 71 I/O (io), 73 I/O (io), 75 I/O (io), 77 I/O (io), 79 I/O (io), 80 I/O (io), 81 I/O (io), 82 I/O (io), 83 I/O (io), 84 I/O (io), 85 I/O (io), 86 I/O (io), 87 I/O (io), 88 I/O (io), 89 I/O (io), 90 I/O (io), 92 I/O (io), 93 I/O (io), 94 I/O (io), 95 I/O (io), 97 I/O (io), 98 I/O (io), 99 I/O (io), 100 I/O (io), 101 I/O (io), 113 I/O (io), 115 I/O (io), 117 I/O (io), 119 I/O (io), 126 I/O (io), 127 I/O (io), 128 I/O (io), 129 I/O (io), 133 I/O (io), 134 I/O (io), 135 I/O (io), 136 I/O (io), 142 I/O (io), 143 I/O (io), 144 I/O (io), 145 I/O (io), 146 I/O (io), 148 I/O (io), 152 I/O (io), 161 I/O (io), 163 I/O (io), 166 I/O (io), 167 I/O (io), 168 I/O (io), 170 I/O (io), 173 I/O (io), 174 I/O (io), 175 I/O (io), 176 I/O (io), 177 I/O (io), 179 I/O (io), 180 I/O (io), 181 I/O (io), 183 I/O (io), 184 I/O (io), 185 I/O (io), 186 I/O (io), 187 I/O (io), 188 I/O (io), 189 I/O (io), 190 I/O (io), 191 I/O (io), 192 I/O (io), 194 I/O (io), 195 I/O (io), 196 I/O (io), 197 I/O (io), 198 I/O (io), 199 I/O (io), 202 I/O (io), 204 I/O (io), 205 I/O (io)

## EPF8636ARC208-4
designator U?
FLEX EPF8636A 5.0V PLD, 136 User IO Pins, 208-Pin RQFP, Speed Grade 4, Commercial Grade; ComponentAvailability: Obsolete; Published: 24-Nov-2000; LatestRevisionDate: 13-Apr-2006; LatestRevisionNote: IPC-7351 Footprint Added.; DatasheetVersion: Jun-1999; PackageVersion: ver14.1, Oct-2005; PackageReference: RQFP208; Publisher: Altium Limited; PackageDescription: 208-Pin Power Quad Flat Pack (RQFP208); Code_JEDEC: MS-029-FA-1; ComponentLink1Description: Manufacturer Link; ComponentLink1URL: http://www.altera.com/products/devices/flex8k/f8k-index.html; ComponentLink2Description: Discontinuation Notice; ComponentLink2URL: http://www.altera.com/literature/pcn/pdn0314.pdf
footprint RQFP208_N (Shrink QFP, 208-Leads, Body 28x28mm, Pitch 0.5mm, IPC Medium Density)
footprint RQFP208_L (Shrink QFP, 208-Leads, Body 28x28mm, Pitch 0.5mm, IPC High Density)
footprint RQFP208_M (Shrink QFP, 208-Leads, Body 28x28mm, Pitch 0.5mm, IPC Low Density)
3D model EPF8636A-RQFP208 (208-Pin Power Quad Flat Pack (RQFP208))
part A pins: 1 NC, 2 NC, 3 NC, 4 MSEL0 (in), 5 VCCINT (power), 6 VCCINT (power), 7 IN (in), 8 ADD1 (io), 10 ADD2 (io), 12 ADD3 (io), 14 ADD4 (io), 16 NC, 17 NC, 18 NC, 19 GND, 20 GND (power), 21 ADD5 (io), 22 ADD6 (io), 23 ADD7 (io), 24 ADD8 (io), 25 NC, 26 NC, 27 NC, 28 ADD9 (io), 29 ADD10 (io), 30 ADD11 (io), 31 ADD12 (io), 32 VCCIO (power), 33 VCCINT (power), 34 NC, 35 NC, 36 NC, 37 ADD13 (io), 39 ADD14 (io), 41 ADD15 (io), 43 ADD16 (io), 45 IN (in), 46 GND (power), 47 GND (power), 49 MSEL1 (in), 50 NC, 51 NC, 52 NC, 53 NC, 54 nTRST (in), 55 VCCIO (power), 57 ADD17 (io), 59 CLKUSR (io), 60 GND (power), 64 RDCLK (io), 66 nRS (io), 67 GND (power), 72 TDI (io), 74 TCK (io), 76 TMS (io), 78 VCCIO (power), 91 VCCIO (power), 96 GND (power), 102 VCCIO (power), 103 nCONFIG (in), 104 NC, 105 NC, 106 NC, 107 NC, 108 nSTATUS (in), 109 GND (power), 110 VCCINT (power), 111 GND (power), 112 IN (in), 114 nWS (io), 116 nCS (io), 118 CS (io), 120 TDO (io), 121 NC, 122 NC, 123 NC, 124 GND (power), 125 GND (power), 130 NC, 131 NC, 132 NC, 137 VCCINT (power), 138 VCCIO (power), 139 NC, 140 NC, 141 NC, 147 DATA0 (io), 149 DATA1 (io), 150 IN (in), 151 GND (power), 153 CONF_DONE (in), 154 NC, 155 NC, 156 NC, 157 NC, 158 DCLK (in), 159 VCCIO (power), 160 DATA2 (io), 162 DATA3 (io), 164 GND (power), 165 DATA4 (io), 169 DATA5 (io), 171 GND (power), 172 DATA6 (io), 178 DATA7 (io), 182 VCCIO (power), 193 VCCIO (power), 200 GND (power), 201 RDYnBUSY (io), 203 ADD0 (io), 206 VCCIO (power), 207 nSP (in), 208 NC
part B pins: 9 I/O (io), 11 I/O (io), 13 I/O (io), 15 I/O (io), 38 I/O (io), 40 I/O (io), 42 I/O (io), 44 I/O (io), 48 I/O (io), 56 I/O (io), 58 I/O (io), 61 I/O (io), 62 I/O (io), 63 I/O (io), 65 I/O (io), 68 I/O (io), 69 I/O (io), 70 I/O (io), 71 I/O (io), 73 I/O (io), 75 I/O (io), 77 I/O (io), 79 I/O (io), 80 I/O (io), 81 I/O (io), 82 I/O (io), 83 I/O (io), 84 I/O (io), 85 I/O (io), 86 I/O (io), 87 I/O (io), 88 I/O (io), 89 I/O (io), 90 I/O (io), 92 I/O (io), 93 I/O (io), 94 I/O (io), 95 I/O (io), 97 I/O (io), 98 I/O (io), 99 I/O (io), 100 I/O (io), 101 I/O (io), 113 I/O (io), 115 I/O (io), 117 I/O (io), 119 I/O (io), 126 I/O (io), 127 I/O (io), 128 I/O (io), 129 I/O (io), 133 I/O (io), 134 I/O (io), 135 I/O (io), 136 I/O (io), 142 I/O (io), 143 I/O (io), 144 I/O (io), 145 I/O (io), 146 I/O (io), 148 I/O (io), 152 I/O (io), 161 I/O (io), 163 I/O (io), 166 I/O (io), 167 I/O (io), 168 I/O (io), 170 I/O (io), 173 I/O (io), 174 I/O (io), 175 I/O (io), 176 I/O (io), 177 I/O (io), 179 I/O (io), 180 I/O (io), 181 I/O (io), 183 I/O (io), 184 I/O (io), 185 I/O (io), 186 I/O (io), 187 I/O (io), 188 I/O (io), 189 I/O (io), 190 I/O (io), 191 I/O (io), 192 I/O (io), 194 I/O (io), 195 I/O (io), 196 I/O (io), 197 I/O (io), 198 I/O (io), 199 I/O (io), 202 I/O (io), 204 I/O (io), 205 I/O (io)

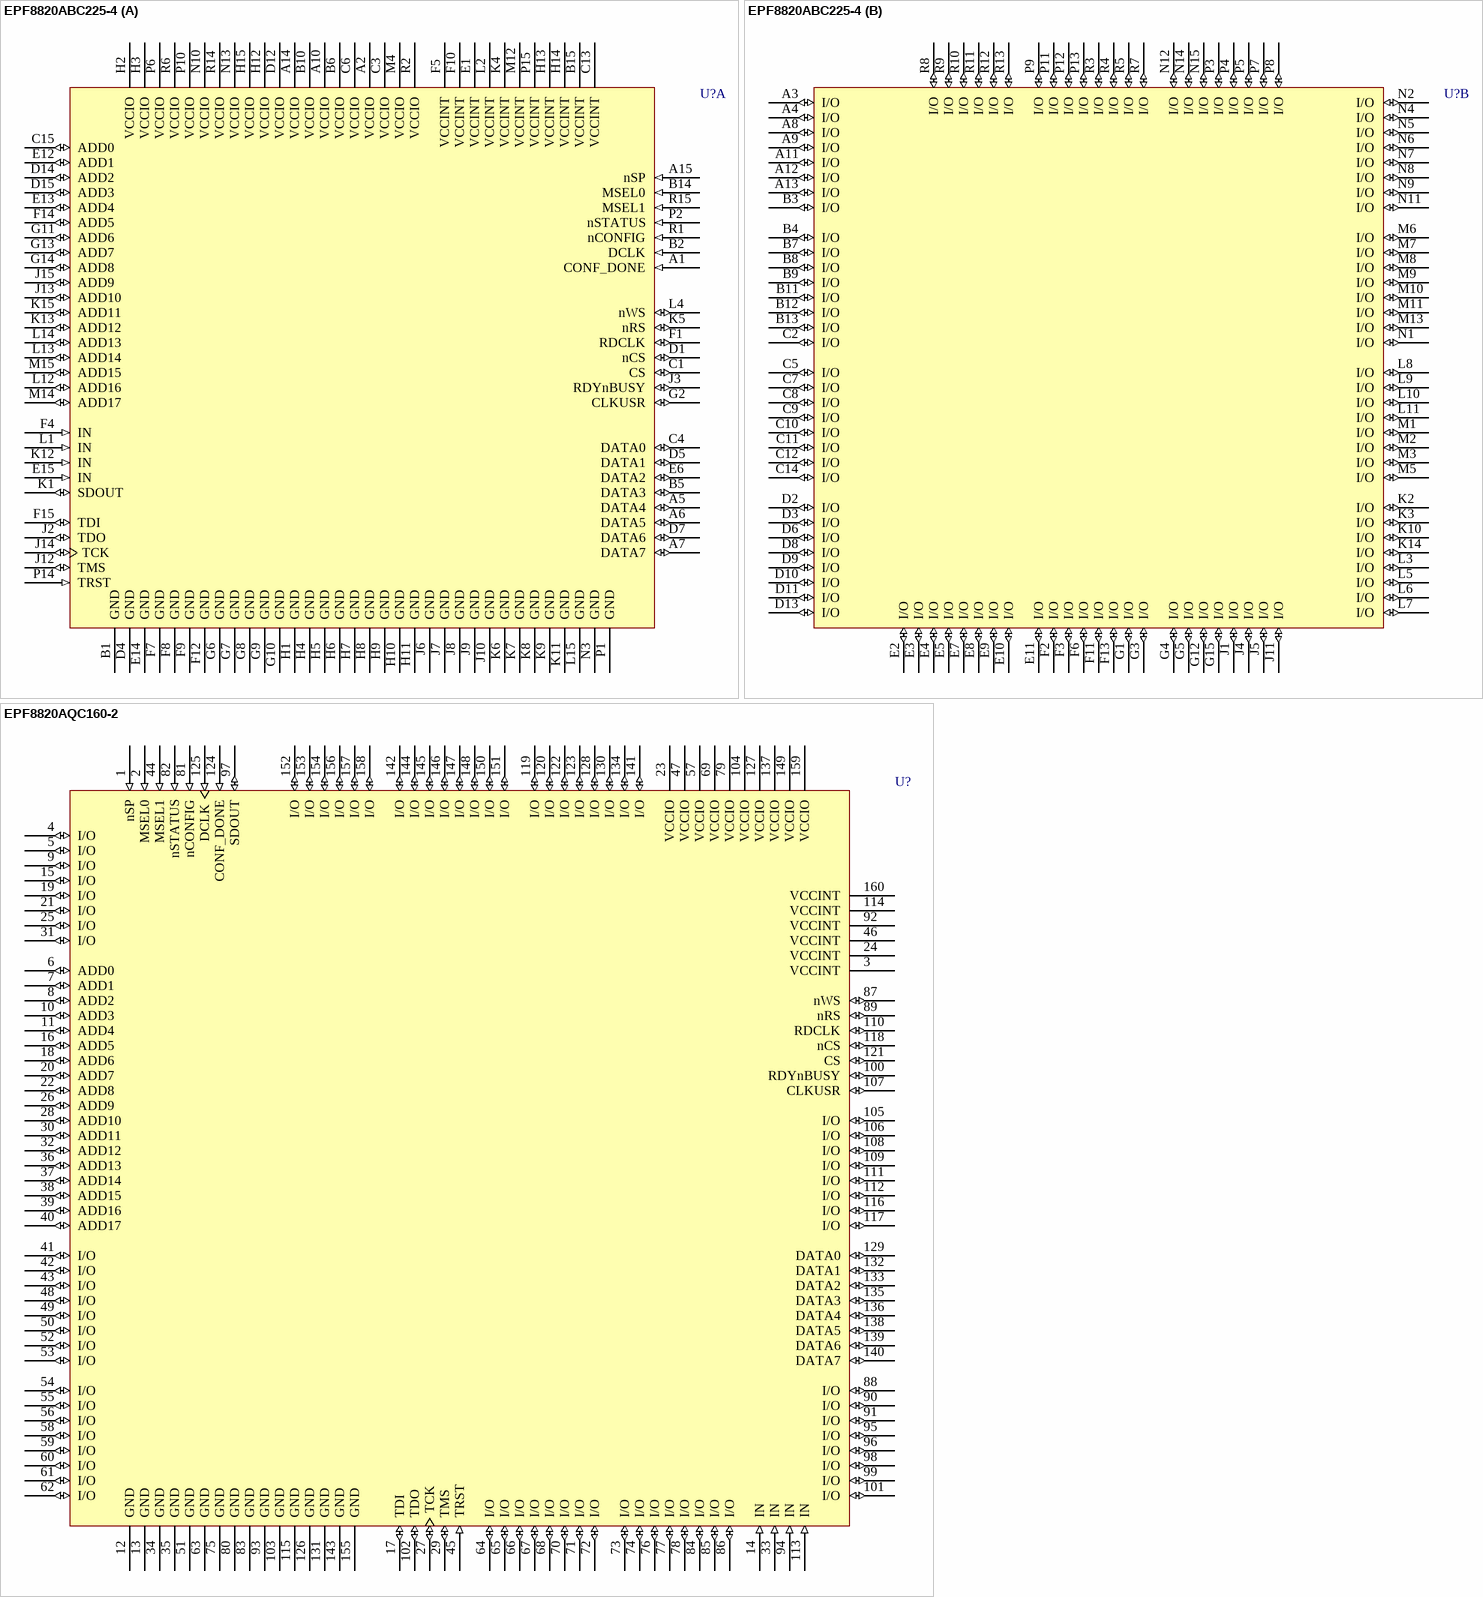
[diagram p11: symbols EPF8820ABC225-4 to EPF8820AQC160-2]

## EPF8820ABC225-4
designator U?
FLEX EPF8820A 5.0V PLD, 152 User IO Pins, 225-Pin BGA, Speed Grade 4, Commercial Grade; Published: 24-Nov-2000; LatestRevisionDate: 13-Apr-2006; LatestRevisionNote: IPC-7351 Footprint Added.; DatasheetVersion: ver11.1, Jan-2003; PackageVersion: ver8, Aug-1999; PackageReference: BGA225; Publisher: Altium Limited; PackageDescription: 225-Ball Ball Grid Array 1.5 mm Pitch; ComponentLink1Description: Manufacturer Link; ComponentLink1URL: http://www.altera.com/products/devices/flex8k/f8k-index.html
footprint BGA225 (BGA, 225-Leads, Body 27x27mm, Pitch 1.5mm)
3D model EPF8820A-BGA225 (225-Ball Ball Grid Array 1.5 mm Pitch)
part A pins: A1 CONF_DONE (in), A2 VCCIO (power), A5 DATA4 (io), A6 DATA5 (io), A7 DATA7 (io), A10 VCCIO (power), A14 VCCIO (power), A15 nSP (in), B1 GND (power), B2 DCLK (in), B5 DATA3 (io), B6 VCCIO (power), B10 VCCIO (power), B14 MSEL0 (in), B15 VCCINT (power), C1 CS (io), C3 VCCIO (power), C4 DATA0 (io), C6 VCCIO (power), C13 VCCINT (power), C15 ADD0 (io), D1 nCS (io), D4 GND (power), D5 DATA1 (io), D7 DATA6 (io), D12 VCCIO (power), D14 ADD2 (io), D15 ADD3 (io), E1 VCCINT (power), E6 DATA2 (io), E12 ADD1 (io), E13 ADD4 (io), E14 GND (power), E15 IN (in), F1 RDCLK (io), F4 IN (in), F5 VCCINT (power), F7 GND (power), F8 GND (power), F9 GND (power), F10 VCCINT (power), F12 GND (power), F14 ADD5 (io), F15 TDI (io), G2 CLKUSR (io), G6 GND (power), G7 GND (power), G8 GND (power), G9 GND (power), G10 GND (power), G11 ADD6 (io), G13 ADD7 (io), G14 ADD8 (io), H1 GND (power), H2 VCCIO (power), H3 VCCIO (power), H4 GND (power), H5 GND (power), H6 GND (power), H7 GND (power), H8 GND (power), H9 GND (power), H10 GND (power), H11 GND (power), H12 VCCIO (power), H13 VCCINT (power), H14 VCCINT (power), H15 VCCIO (power), J2 TDO (io), J3 RDYnBUSY (io), J6 GND (power), J7 GND (power), J8 GND (power), J9 GND (power), J10 GND (power), J12 TMS (io), J13 ADD10 (io), J14 TCK (io), J15 ADD9 (io), K1 SDOUT (io), K4 VCCINT (power), K5 nRS (io), K6 GND (power), K7 GND (power), K8 GND (power), K9 GND (power), K11 GND (power), K12 IN (in), K13 ADD12 (io), K15 ADD11 (io), L1 IN (in), L2 VCCINT (power), L4 nWS (io), L12 ADD16 (io), L13 ADD14 (io), L14 ADD13 (io), L15 GND (power), M4 VCCIO (power), M12 VCCINT (power), M14 ADD17 (io), M15 ADD15 (io), N3 GND (power), N10 VCCIO (power), N13 VCCIO (power), P1 GND (power), P2 nSTATUS (in), P6 VCCIO (power), P10 VCCIO (power), P14 TRST (in), P15 VCCINT (power), R1 nCONFIG (in), R2 VCCIO (power), R6 VCCIO (power), R14 VCCIO (power), R15 MSEL1 (in)
part B pins: A3 I/O (io), A4 I/O (io), A8 I/O (io), A9 I/O (io), A11 I/O (io), A12 I/O (io), A13 I/O (io), B3 I/O (io), B4 I/O (io), B7 I/O (io), B8 I/O (io), B9 I/O (io), B11 I/O (io), B12 I/O (io), B13 I/O (io), C2 I/O (io), C5 I/O (io), C7 I/O (io), C8 I/O (io), C9 I/O (io), C10 I/O (io), C11 I/O (io), C12 I/O (io), C14 I/O (io), D2 I/O (io), D3 I/O (io), D6 I/O (io), D8 I/O (io), D9 I/O (io), D10 I/O (io), D11 I/O (io), D13 I/O (io), E2 I/O (io), E3 I/O (io), E4 I/O (io), E5 I/O (io), E7 I/O (io), E8 I/O (io), E9 I/O (io), E10 I/O (io), E11 I/O (io), F2 I/O (io), F3 I/O (io), F6 I/O (io), F11 I/O (io), F13 I/O (io), G1 I/O (io), G3 I/O (io), G4 I/O (io), G5 I/O (io), G12 I/O (io), G15 I/O (io), J1 I/O (io), J4 I/O (io), J5 I/O (io), J11 I/O (io), K2 I/O (io), K3 I/O (io), K10 I/O (io), K14 I/O (io), L3 I/O (io), L5 I/O (io), L6 I/O (io), L7 I/O (io), L8 I/O (io), L9 I/O (io), L10 I/O (io), L11 I/O (io), M1 I/O (io), M2 I/O (io), M3 I/O (io), M5 I/O (io), M6 I/O (io), M7 I/O (io), M8 I/O (io), M9 I/O (io), M10 I/O (io), M11 I/O (io), M13 I/O (io), N1 I/O (io), N2 I/O (io), N4 I/O (io), N5 I/O (io), N6 I/O (io), N7 I/O (io), N8 I/O (io), N9 I/O (io), N11 I/O (io), N12 I/O (io), N14 I/O (io), N15 I/O (io), P3 I/O (io), P4 I/O (io), P5 I/O (io), P7 I/O (io), P8 I/O (io), P9 I/O (io), P11 I/O (io), P12 I/O (io), P13 I/O (io), R3 I/O (io), R4 I/O (io), R5 I/O (io), R7 I/O (io), R8 I/O (io), R9 I/O (io), R10 I/O (io), R11 I/O (io), R12 I/O (io), R13 I/O (io)

## EPF8820AQC160-2
designator U?
FLEX EPF8820A 5.0V PLD, 120 User IO Pins, 160-Pin PQFP, Speed Grade 2, Commercial Grade; Published: 24-Nov-2000; LatestRevisionDate: 13-Apr-2006; LatestRevisionNote: IPC-7351 Footprint Added.; DatasheetVersion: ver11.1, Jan-2003; PackageVersion: ver14.1, Oct-2005; PackageReference: PQFP160; Publisher: Altium Limited; PackageDescription: 160-Pin Plastic Quad Flat Pack (PFQP160); Code_JEDEC: MS-022-DD-1; Code_IPC: QFP65P3120X3120-160; ComponentLink1Description: Manufacturer Link; ComponentLink1URL: http://www.altera.com/products/devices/flex8k/f8k-index.html; ComponentLink2Description: Datasheet; ComponentLink2URL: http://www.altera.com/literature/ds/dsf8k.pdf
footprint PQFP160_N (QFP, 160-Leads, Body 28 x 28mm, Pitch 0.65mm, IPC Medium Density)
footprint PQFP160_L (QFP, 160-Leads, Body 28 x 28mm, Pitch 0.65mm, IPC High Density)
footprint PQFP160_M (QFP, 160-Leads, Body 28 x 28mm, Pitch 0.65mm, IPC Low Density)
3D model EPF8820A-PQFP160 (160-Pin Plastic Quad Flat Pack (PFQP160))
pins: 1 nSP (in), 2 MSEL0 (in), 3 VCCINT (power), 4 I/O (io), 5 I/O (io), 6 ADD0 (io), 7 ADD1 (io), 8 ADD2 (io), 9 I/O (io), 10 ADD3 (io), 11 ADD4 (io), 12 GND (power), 13 GND (power), 14 IN (in), 15 I/O (io), 16 ADD5 (io), 17 TDI (io), 18 ADD6 (io), 19 I/O (io), 20 ADD7 (io), 21 I/O (io), 22 ADD8 (io), 23 VCCIO (power), 24 VCCINT (power), 25 I/O (io), 26 ADD9 (io), 27 TCK (io), 28 ADD10 (io), 29 TMS (io), 30 ADD11 (io), 31 I/O (io), 32 ADD12 (io), 33 IN (in), 34 GND (power), 35 GND (power), 36 ADD13 (io), 37 ADD14 (io), 38 ADD15 (io), 39 ADD16 (io), 40 ADD17 (io), 41 I/O (io), 42 I/O (io), 43 I/O (io), 44 MSEL1 (in), 45 TRST (in), 46 VCCINT (power), 47 VCCIO (power), 48 I/O (io), 49 I/O (io), 50 I/O (io), 51 GND (power), 52 I/O (io), 53 I/O (io), 54 I/O (io), 55 I/O (io), 56 I/O (io), 57 VCCIO (power), 58 I/O (io), 59 I/O (io), 60 I/O (io), 61 I/O (io), 62 I/O (io), 63 GND (power), 64 I/O (io), 65 I/O (io), 66 I/O (io), 67 I/O (io), 68 I/O (io), 69 VCCIO (power), 70 I/O (io), 71 I/O (io), 72 I/O (io), 73 I/O (io), 74 I/O (io), 75 GND (power), 76 I/O (io), 77 I/O (io), 78 I/O (io), 79 VCCIO (power), 80 GND (power), 81 nCONFIG (in), 82 nSTATUS (in), 83 GND (power), 84 I/O (io), 85 I/O (io), 86 I/O (io), 87 nWS (io), 88 I/O (io), 89 nRS (io), 90 I/O (io), 91 I/O (io), 92 VCCINT (power), 93 GND (power), 94 IN (in), 95 I/O (io), 96 I/O (io), 97 SDOUT (io), 98 I/O (io), 99 I/O (io), 100 RDYnBUSY (io), 101 I/O (io), 102 TDO (io), 103 GND (power), 104 VCCIO (power), 105 I/O (io), 106 I/O (io), 107 CLKUSR (io), 108 I/O (io), 109 I/O (io), 110 RDCLK (io), 111 I/O (io), 112 I/O (io), 113 IN (in), 114 VCCINT (power), 115 GND (power), 116 I/O (io), 117 I/O (io), 118 nCS (io), 119 I/O (io), 120 I/O (io), 121 CS (io), 122 I/O (io), 123 I/O (io), 124 CONF_DONE (in), 125 DCLK (in), 126 GND (power), 127 VCCIO (power), 128 I/O (io), 129 DATA0 (io), 130 I/O (io), 131 GND (power), 132 DATA1 (io), 133 DATA2 (io), 134 I/O (io), 135 DATA3 (io), 136 DATA4 (io), 137 VCCIO (power), 138 DATA5 (io), 139 DATA6 (io), 140 DATA7 (io), 141 I/O (io), 142 I/O (io), 143 GND (power), 144 I/O (io), 145 I/O (io), 146 I/O (io), 147 I/O (io), 148 I/O (io), 149 VCCIO (power), 150 I/O (io), 151 I/O (io), 152 I/O (io), 153 I/O (io), 154 I/O (io), 155 GND (power), 156 I/O (io), 157 I/O (io), 158 I/O (io), 159 VCCIO (power), 160 VCCINT (power)

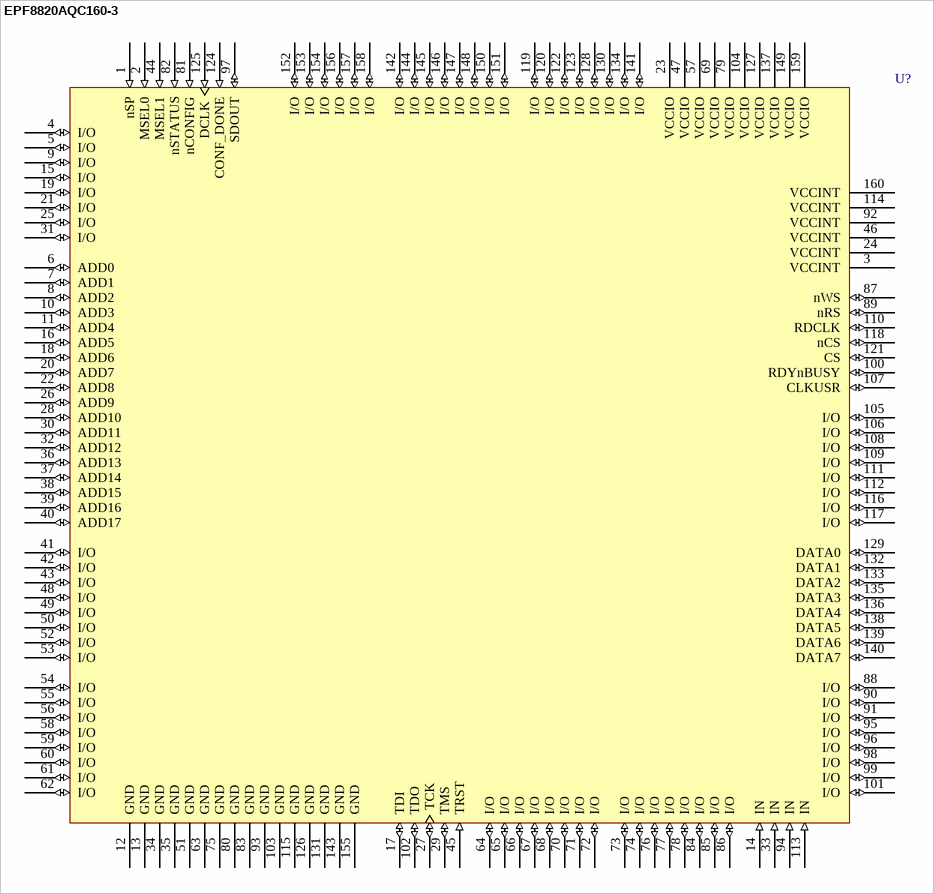
[diagram p12: symbol EPF8820AQC160-3]

## EPF8820AQC160-3
designator U?
FLEX EPF8820A 5.0V PLD, 120 User IO Pins, 160-Pin PQFP, Speed Grade 3, Commercial Grade; Published: 24-Nov-2000; LatestRevisionDate: 13-Apr-2006; LatestRevisionNote: IPC-7351 Footprint Added.; DatasheetVersion: ver11.1, Jan-2003; PackageVersion: ver14.1, Oct-2005; PackageReference: PQFP160; Publisher: Altium Limited; PackageDescription: 160-Pin Plastic Quad Flat Pack (PFQP160); Code_JEDEC: MS-022-DD-1; Code_IPC: QFP65P3120X3120-160; ComponentLink1Description: Manufacturer Link; ComponentLink1URL: http://www.altera.com/products/devices/flex8k/f8k-index.html; ComponentLink2Description: Datasheet; ComponentLink2URL: http://www.altera.com/literature/ds/dsf8k.pdf
footprint PQFP160_N (QFP, 160-Leads, Body 28 x 28mm, Pitch 0.65mm, IPC Medium Density)
footprint PQFP160_L (QFP, 160-Leads, Body 28 x 28mm, Pitch 0.65mm, IPC High Density)
footprint PQFP160_M (QFP, 160-Leads, Body 28 x 28mm, Pitch 0.65mm, IPC Low Density)
3D model EPF8820A-PQFP160 (160-Pin Plastic Quad Flat Pack (PFQP160))
pins: 1 nSP (in), 2 MSEL0 (in), 3 VCCINT (power), 4 I/O (io), 5 I/O (io), 6 ADD0 (io), 7 ADD1 (io), 8 ADD2 (io), 9 I/O (io), 10 ADD3 (io), 11 ADD4 (io), 12 GND (power), 13 GND (power), 14 IN (in), 15 I/O (io), 16 ADD5 (io), 17 TDI (io), 18 ADD6 (io), 19 I/O (io), 20 ADD7 (io), 21 I/O (io), 22 ADD8 (io), 23 VCCIO (power), 24 VCCINT (power), 25 I/O (io), 26 ADD9 (io), 27 TCK (io), 28 ADD10 (io), 29 TMS (io), 30 ADD11 (io), 31 I/O (io), 32 ADD12 (io), 33 IN (in), 34 GND (power), 35 GND (power), 36 ADD13 (io), 37 ADD14 (io), 38 ADD15 (io), 39 ADD16 (io), 40 ADD17 (io), 41 I/O (io), 42 I/O (io), 43 I/O (io), 44 MSEL1 (in), 45 TRST (in), 46 VCCINT (power), 47 VCCIO (power), 48 I/O (io), 49 I/O (io), 50 I/O (io), 51 GND (power), 52 I/O (io), 53 I/O (io), 54 I/O (io), 55 I/O (io), 56 I/O (io), 57 VCCIO (power), 58 I/O (io), 59 I/O (io), 60 I/O (io), 61 I/O (io), 62 I/O (io), 63 GND (power), 64 I/O (io), 65 I/O (io), 66 I/O (io), 67 I/O (io), 68 I/O (io), 69 VCCIO (power), 70 I/O (io), 71 I/O (io), 72 I/O (io), 73 I/O (io), 74 I/O (io), 75 GND (power), 76 I/O (io), 77 I/O (io), 78 I/O (io), 79 VCCIO (power), 80 GND (power), 81 nCONFIG (in), 82 nSTATUS (in), 83 GND (power), 84 I/O (io), 85 I/O (io), 86 I/O (io), 87 nWS (io), 88 I/O (io), 89 nRS (io), 90 I/O (io), 91 I/O (io), 92 VCCINT (power), 93 GND (power), 94 IN (in), 95 I/O (io), 96 I/O (io), 97 SDOUT (io), 98 I/O (io), 99 I/O (io), 100 RDYnBUSY (io), 101 I/O (io), 102 TDO (io), 103 GND (power), 104 VCCIO (power), 105 I/O (io), 106 I/O (io), 107 CLKUSR (io), 108 I/O (io), 109 I/O (io), 110 RDCLK (io), 111 I/O (io), 112 I/O (io), 113 IN (in), 114 VCCINT (power), 115 GND (power), 116 I/O (io), 117 I/O (io), 118 nCS (io), 119 I/O (io), 120 I/O (io), 121 CS (io), 122 I/O (io), 123 I/O (io), 124 CONF_DONE (in), 125 DCLK (in), 126 GND (power), 127 VCCIO (power), 128 I/O (io), 129 DATA0 (io), 130 I/O (io), 131 GND (power), 132 DATA1 (io), 133 DATA2 (io), 134 I/O (io), 135 DATA3 (io), 136 DATA4 (io), 137 VCCIO (power), 138 DATA5 (io), 139 DATA6 (io), 140 DATA7 (io), 141 I/O (io), 142 I/O (io), 143 GND (power), 144 I/O (io), 145 I/O (io), 146 I/O (io), 147 I/O (io), 148 I/O (io), 149 VCCIO (power), 150 I/O (io), 151 I/O (io), 152 I/O (io), 153 I/O (io), 154 I/O (io), 155 GND (power), 156 I/O (io), 157 I/O (io), 158 I/O (io), 159 VCCIO (power), 160 VCCINT (power)

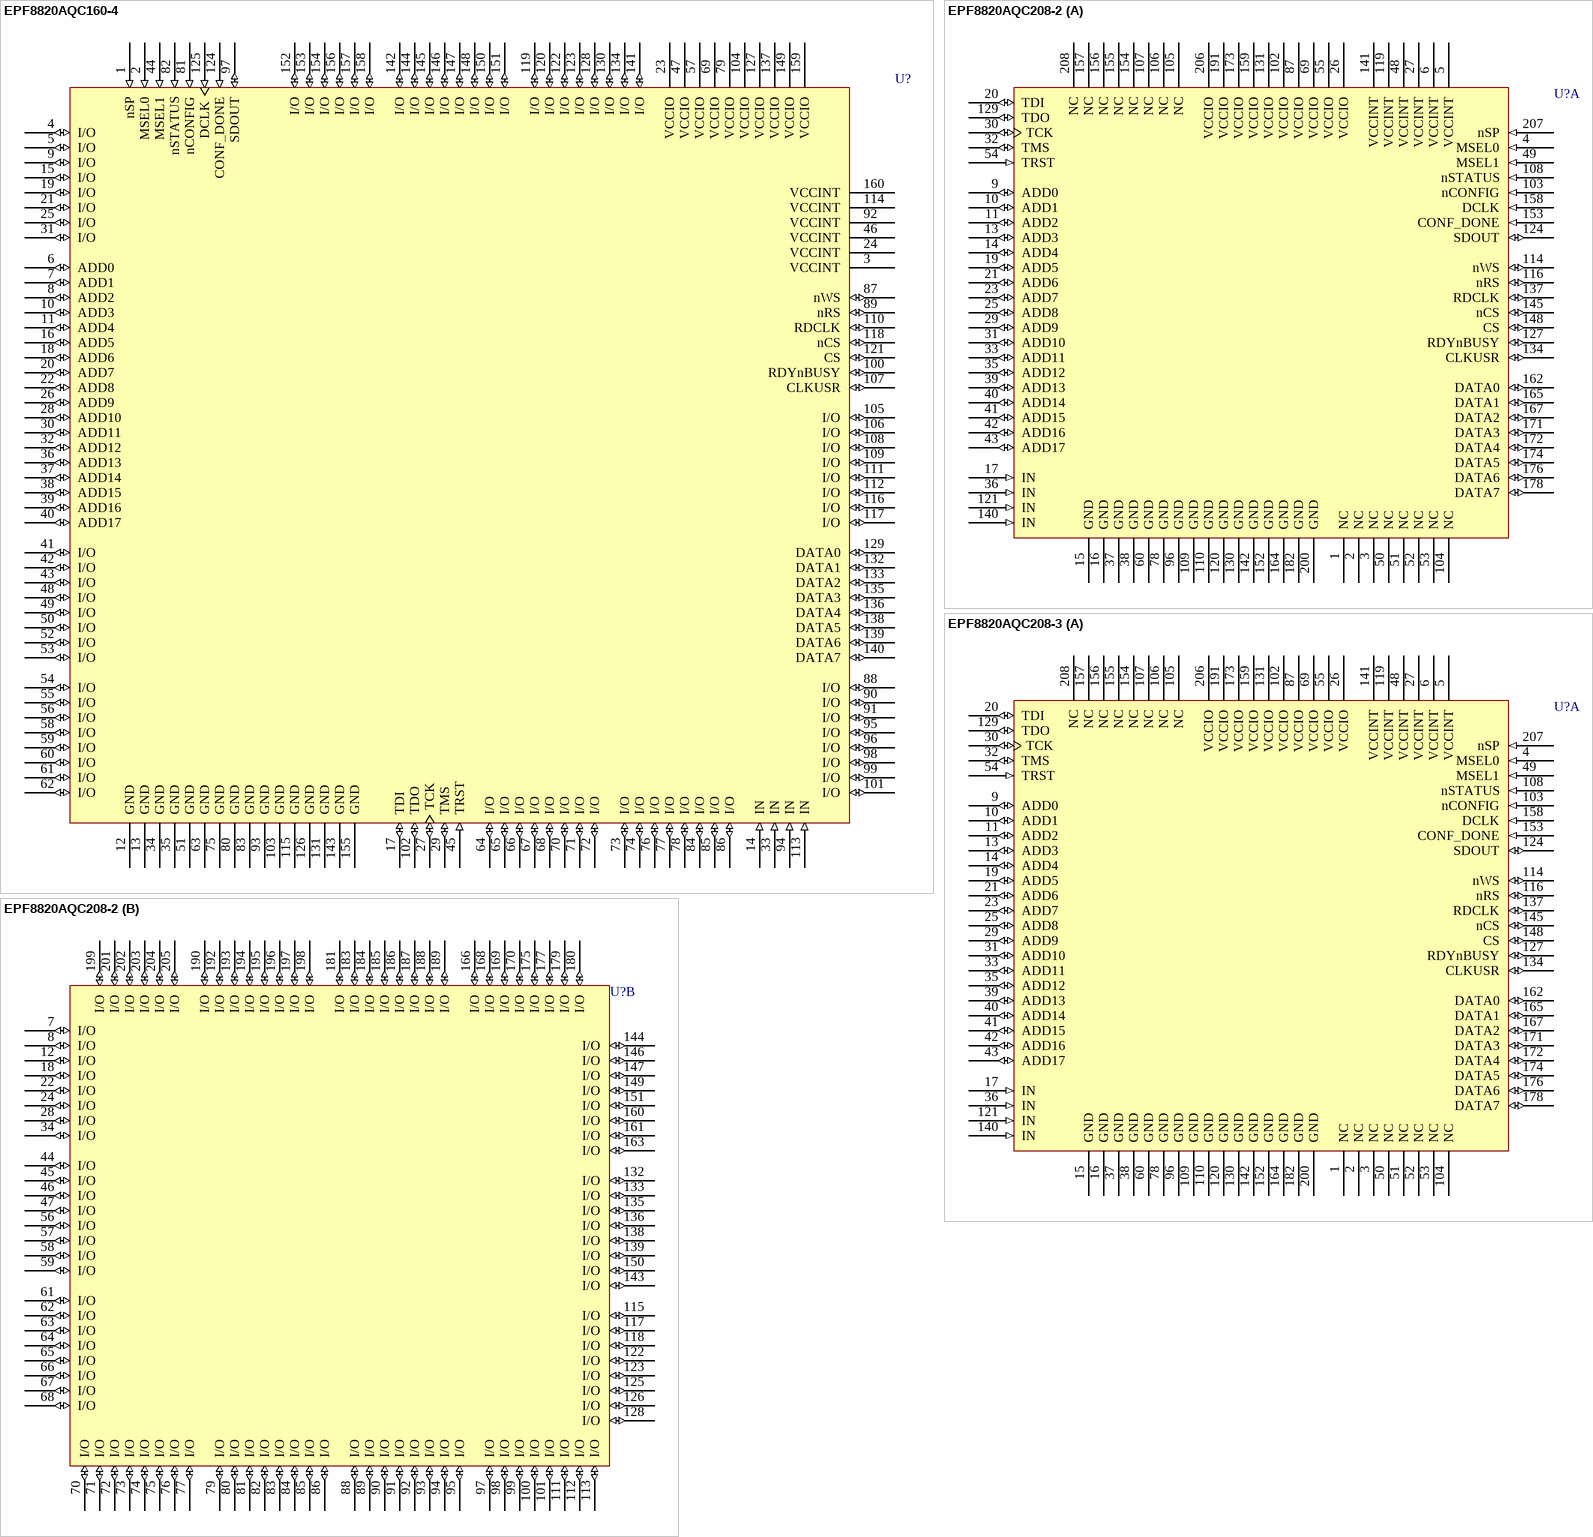
[diagram p13: symbols EPF8820AQC160-4 to EPF8820AQC208-3]

## EPF8820AQC160-4
designator U?
FLEX EPF8820A 5.0V PLD, 120 User IO Pins, 160-Pin PQFP, Speed Grade 4, Commercial Grade; Published: 24-Nov-2000; LatestRevisionDate: 13-Apr-2006; LatestRevisionNote: IPC-7351 Footprint Added.; DatasheetVersion: ver11.1, Jan-2003; PackageVersion: ver14.1, Oct-2005; PackageReference: PQFP160; Publisher: Altium Limited; PackageDescription: 160-Pin Plastic Quad Flat Pack (PFQP160); Code_JEDEC: MS-022-DD-1; Code_IPC: QFP65P3120X3120-160; ComponentLink1Description: Manufacturer Link; ComponentLink1URL: http://www.altera.com/products/devices/flex8k/f8k-index.html; ComponentLink2Description: Datasheet; ComponentLink2URL: http://www.altera.com/literature/ds/dsf8k.pdf
footprint PQFP160_N (QFP, 160-Leads, Body 28 x 28mm, Pitch 0.65mm, IPC Medium Density)
footprint PQFP160_L (QFP, 160-Leads, Body 28 x 28mm, Pitch 0.65mm, IPC High Density)
footprint PQFP160_M (QFP, 160-Leads, Body 28 x 28mm, Pitch 0.65mm, IPC Low Density)
3D model EPF8820A-PQFP160 (160-Pin Plastic Quad Flat Pack (PFQP160))
pins: 1 nSP (in), 2 MSEL0 (in), 3 VCCINT (power), 4 I/O (io), 5 I/O (io), 6 ADD0 (io), 7 ADD1 (io), 8 ADD2 (io), 9 I/O (io), 10 ADD3 (io), 11 ADD4 (io), 12 GND (power), 13 GND (power), 14 IN (in), 15 I/O (io), 16 ADD5 (io), 17 TDI (io), 18 ADD6 (io), 19 I/O (io), 20 ADD7 (io), 21 I/O (io), 22 ADD8 (io), 23 VCCIO (power), 24 VCCINT (power), 25 I/O (io), 26 ADD9 (io), 27 TCK (io), 28 ADD10 (io), 29 TMS (io), 30 ADD11 (io), 31 I/O (io), 32 ADD12 (io), 33 IN (in), 34 GND (power), 35 GND (power), 36 ADD13 (io), 37 ADD14 (io), 38 ADD15 (io), 39 ADD16 (io), 40 ADD17 (io), 41 I/O (io), 42 I/O (io), 43 I/O (io), 44 MSEL1 (in), 45 TRST (in), 46 VCCINT (power), 47 VCCIO (power), 48 I/O (io), 49 I/O (io), 50 I/O (io), 51 GND (power), 52 I/O (io), 53 I/O (io), 54 I/O (io), 55 I/O (io), 56 I/O (io), 57 VCCIO (power), 58 I/O (io), 59 I/O (io), 60 I/O (io), 61 I/O (io), 62 I/O (io), 63 GND (power), 64 I/O (io), 65 I/O (io), 66 I/O (io), 67 I/O (io), 68 I/O (io), 69 VCCIO (power), 70 I/O (io), 71 I/O (io), 72 I/O (io), 73 I/O (io), 74 I/O (io), 75 GND (power), 76 I/O (io), 77 I/O (io), 78 I/O (io), 79 VCCIO (power), 80 GND (power), 81 nCONFIG (in), 82 nSTATUS (in), 83 GND (power), 84 I/O (io), 85 I/O (io), 86 I/O (io), 87 nWS (io), 88 I/O (io), 89 nRS (io), 90 I/O (io), 91 I/O (io), 92 VCCINT (power), 93 GND (power), 94 IN (in), 95 I/O (io), 96 I/O (io), 97 SDOUT (io), 98 I/O (io), 99 I/O (io), 100 RDYnBUSY (io), 101 I/O (io), 102 TDO (io), 103 GND (power), 104 VCCIO (power), 105 I/O (io), 106 I/O (io), 107 CLKUSR (io), 108 I/O (io), 109 I/O (io), 110 RDCLK (io), 111 I/O (io), 112 I/O (io), 113 IN (in), 114 VCCINT (power), 115 GND (power), 116 I/O (io), 117 I/O (io), 118 nCS (io), 119 I/O (io), 120 I/O (io), 121 CS (io), 122 I/O (io), 123 I/O (io), 124 CONF_DONE (in), 125 DCLK (in), 126 GND (power), 127 VCCIO (power), 128 I/O (io), 129 DATA0 (io), 130 I/O (io), 131 GND (power), 132 DATA1 (io), 133 DATA2 (io), 134 I/O (io), 135 DATA3 (io), 136 DATA4 (io), 137 VCCIO (power), 138 DATA5 (io), 139 DATA6 (io), 140 DATA7 (io), 141 I/O (io), 142 I/O (io), 143 GND (power), 144 I/O (io), 145 I/O (io), 146 I/O (io), 147 I/O (io), 148 I/O (io), 149 VCCIO (power), 150 I/O (io), 151 I/O (io), 152 I/O (io), 153 I/O (io), 154 I/O (io), 155 GND (power), 156 I/O (io), 157 I/O (io), 158 I/O (io), 159 VCCIO (power), 160 VCCINT (power)